# Altium integrated library con-leotronics.IntLib: 93 symbols (part 2 of 4)

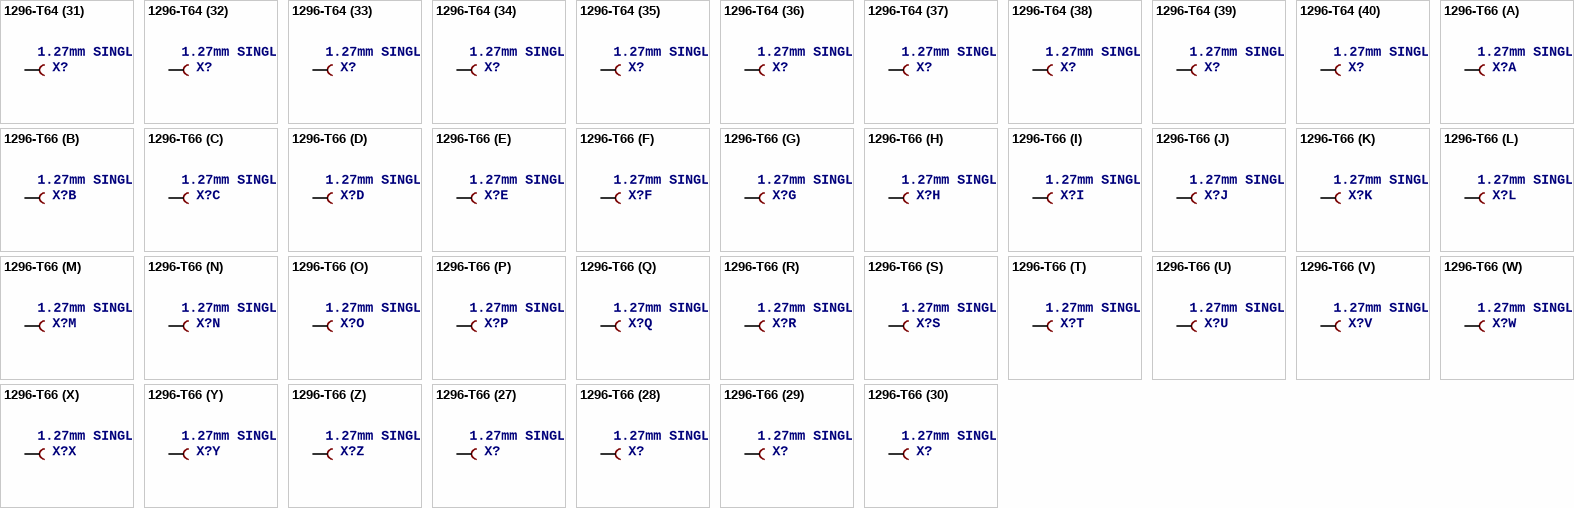
[diagram p23: symbols 1296-T64 to 1296-T66]

## 1296-T64
designator X?, comment 1.27mm SINGLE ROW FEMALE SOCKET   Source: http://www.leotronics.co.uk/Conexcon/Data%20Sheets/sec.%20A/1296ing.pdf
OC_FARNELL: unknown; OC_NEWARK: unknown
footprint 1296-64
part A pins: 1 B
part B pins: 2 B
part C pins: 3 B
part D pins: 4 B
part E pins: 5 B
part F pins: 6 B
part G pins: 7 B
part H pins: 8 B
part I pins: 9 B
part J pins: 10 B
part K pins: 11 B
part L pins: 12 B
part M pins: 13 B
part N pins: 14 B
part O pins: 15 B
part P pins: 16 B
part Q pins: 17 B
part R pins: 18 B
part S pins: 19 B
part T pins: 20 B
part U pins: 21 B
part V pins: 22 B
part W pins: 23 B
part X pins: 24 B
part Y pins: 25 B
part Z pins: 26 B
part 27 pins: 27 B
part 28 pins: 28 B
part 29 pins: 29 B
part 30 pins: 30 B
part 31 pins: 31 B
part 32 pins: 32 B
part 33 pins: 33 B
part 34 pins: 34 B
part 35 pins: 35 B
part 36 pins: 36 B
part 37 pins: 37 B
part 38 pins: 38 B
part 39 pins: 39 B
part 40 pins: 40 B
part 41 pins: 41 B
part 42 pins: 42 B
part 43 pins: 43 B
part 44 pins: 44 B
part 45 pins: 45 B
part 46 pins: 46 B
part 47 pins: 47 B
part 48 pins: 48 B
part 49 pins: 49 B
part 50 pins: 50 B
part 51 pins: 51 B
part 52 pins: 52 B
part 53 pins: 53 B
part 54 pins: 54 B
part 55 pins: 55 B
part 56 pins: 56 B
part 57 pins: 57 B
part 58 pins: 58 B
part 59 pins: 59 B
part 60 pins: 60 B
part 61 pins: 61 B
part 62 pins: 62 B
part 63 pins: 63 B
part 64 pins: 64 B

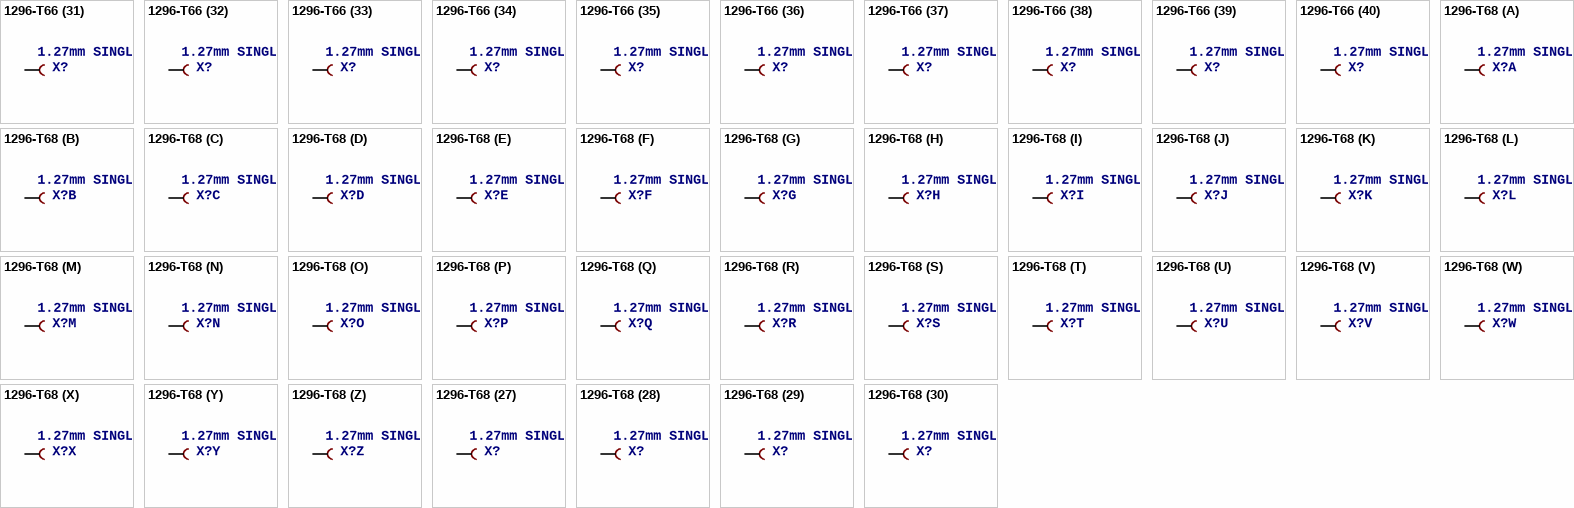
[diagram p24: symbols 1296-T66 to 1296-T68]

## 1296-T66
designator X?, comment 1.27mm SINGLE ROW FEMALE SOCKET   Source: http://www.leotronics.co.uk/Conexcon/Data%20Sheets/sec.%20A/1296ing.pdf
OC_FARNELL: unknown; OC_NEWARK: unknown
footprint 1296-66
part A pins: 1 B
part B pins: 2 B
part C pins: 3 B
part D pins: 4 B
part E pins: 5 B
part F pins: 6 B
part G pins: 7 B
part H pins: 8 B
part I pins: 9 B
part J pins: 10 B
part K pins: 11 B
part L pins: 12 B
part M pins: 13 B
part N pins: 14 B
part O pins: 15 B
part P pins: 16 B
part Q pins: 17 B
part R pins: 18 B
part S pins: 19 B
part T pins: 20 B
part U pins: 21 B
part V pins: 22 B
part W pins: 23 B
part X pins: 24 B
part Y pins: 25 B
part Z pins: 26 B
part 27 pins: 27 B
part 28 pins: 28 B
part 29 pins: 29 B
part 30 pins: 30 B
part 31 pins: 31 B
part 32 pins: 32 B
part 33 pins: 33 B
part 34 pins: 34 B
part 35 pins: 35 B
part 36 pins: 36 B
part 37 pins: 37 B
part 38 pins: 38 B
part 39 pins: 39 B
part 40 pins: 40 B
part 41 pins: 41 B
part 42 pins: 42 B
part 43 pins: 43 B
part 44 pins: 44 B
part 45 pins: 45 B
part 46 pins: 46 B
part 47 pins: 47 B
part 48 pins: 48 B
part 49 pins: 49 B
part 50 pins: 50 B
part 51 pins: 51 B
part 52 pins: 52 B
part 53 pins: 53 B
part 54 pins: 54 B
part 55 pins: 55 B
part 56 pins: 56 B
part 57 pins: 57 B
part 58 pins: 58 B
part 59 pins: 59 B
part 60 pins: 60 B
part 61 pins: 61 B
part 62 pins: 62 B
part 63 pins: 63 B
part 64 pins: 64 B
part 65 pins: 65 B
part 66 pins: 66 B

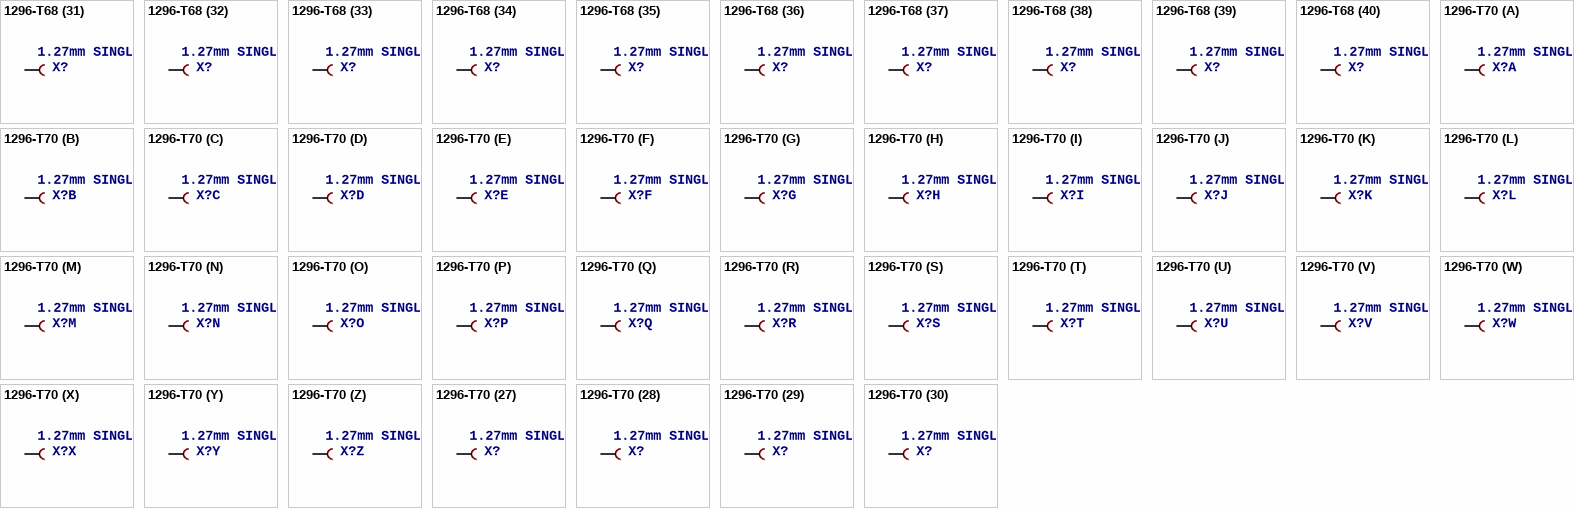
[diagram p25: symbols 1296-T68 to 1296-T70]

## 1296-T68
designator X?, comment 1.27mm SINGLE ROW FEMALE SOCKET   Source: http://www.leotronics.co.uk/Conexcon/Data%20Sheets/sec.%20A/1296ing.pdf
OC_FARNELL: unknown; OC_NEWARK: unknown
footprint 1296-68
part A pins: 1 B
part B pins: 2 B
part C pins: 3 B
part D pins: 4 B
part E pins: 5 B
part F pins: 6 B
part G pins: 7 B
part H pins: 8 B
part I pins: 9 B
part J pins: 10 B
part K pins: 11 B
part L pins: 12 B
part M pins: 13 B
part N pins: 14 B
part O pins: 15 B
part P pins: 16 B
part Q pins: 17 B
part R pins: 18 B
part S pins: 19 B
part T pins: 20 B
part U pins: 21 B
part V pins: 22 B
part W pins: 23 B
part X pins: 24 B
part Y pins: 25 B
part Z pins: 26 B
part 27 pins: 27 B
part 28 pins: 28 B
part 29 pins: 29 B
part 30 pins: 30 B
part 31 pins: 31 B
part 32 pins: 32 B
part 33 pins: 33 B
part 34 pins: 34 B
part 35 pins: 35 B
part 36 pins: 36 B
part 37 pins: 37 B
part 38 pins: 38 B
part 39 pins: 39 B
part 40 pins: 40 B
part 41 pins: 41 B
part 42 pins: 42 B
part 43 pins: 43 B
part 44 pins: 44 B
part 45 pins: 45 B
part 46 pins: 46 B
part 47 pins: 47 B
part 48 pins: 48 B
part 49 pins: 49 B
part 50 pins: 50 B
part 51 pins: 51 B
part 52 pins: 52 B
part 53 pins: 53 B
part 54 pins: 54 B
part 55 pins: 55 B
part 56 pins: 56 B
part 57 pins: 57 B
part 58 pins: 58 B
part 59 pins: 59 B
part 60 pins: 60 B
part 61 pins: 61 B
part 62 pins: 62 B
part 63 pins: 63 B
part 64 pins: 64 B
part 65 pins: 65 B
part 66 pins: 66 B
part 67 pins: 67 B
part 68 pins: 68 B

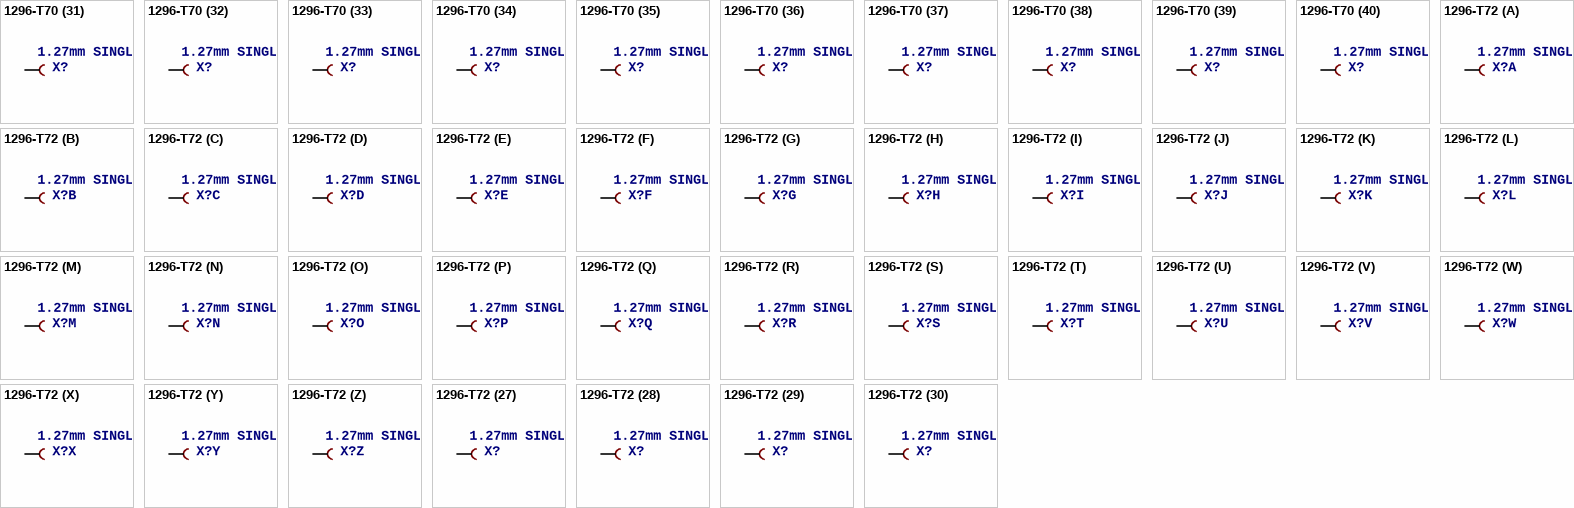
[diagram p26: symbols 1296-T70 to 1296-T72]

## 1296-T70
designator X?, comment 1.27mm SINGLE ROW FEMALE SOCKET   Source: http://www.leotronics.co.uk/Conexcon/Data%20Sheets/sec.%20A/1296ing.pdf
OC_FARNELL: unknown; OC_NEWARK: unknown
footprint 1296-70
part A pins: 1 B
part B pins: 2 B
part C pins: 3 B
part D pins: 4 B
part E pins: 5 B
part F pins: 6 B
part G pins: 7 B
part H pins: 8 B
part I pins: 9 B
part J pins: 10 B
part K pins: 11 B
part L pins: 12 B
part M pins: 13 B
part N pins: 14 B
part O pins: 15 B
part P pins: 16 B
part Q pins: 17 B
part R pins: 18 B
part S pins: 19 B
part T pins: 20 B
part U pins: 21 B
part V pins: 22 B
part W pins: 23 B
part X pins: 24 B
part Y pins: 25 B
part Z pins: 26 B
part 27 pins: 27 B
part 28 pins: 28 B
part 29 pins: 29 B
part 30 pins: 30 B
part 31 pins: 31 B
part 32 pins: 32 B
part 33 pins: 33 B
part 34 pins: 34 B
part 35 pins: 35 B
part 36 pins: 36 B
part 37 pins: 37 B
part 38 pins: 38 B
part 39 pins: 39 B
part 40 pins: 40 B
part 41 pins: 41 B
part 42 pins: 42 B
part 43 pins: 43 B
part 44 pins: 44 B
part 45 pins: 45 B
part 46 pins: 46 B
part 47 pins: 47 B
part 48 pins: 48 B
part 49 pins: 49 B
part 50 pins: 50 B
part 51 pins: 51 B
part 52 pins: 52 B
part 53 pins: 53 B
part 54 pins: 54 B
part 55 pins: 55 B
part 56 pins: 56 B
part 57 pins: 57 B
part 58 pins: 58 B
part 59 pins: 59 B
part 60 pins: 60 B
part 61 pins: 61 B
part 62 pins: 62 B
part 63 pins: 63 B
part 64 pins: 64 B
part 65 pins: 65 B
part 66 pins: 66 B
part 67 pins: 67 B
part 68 pins: 68 B
part 69 pins: 69 B
part 70 pins: 70 B

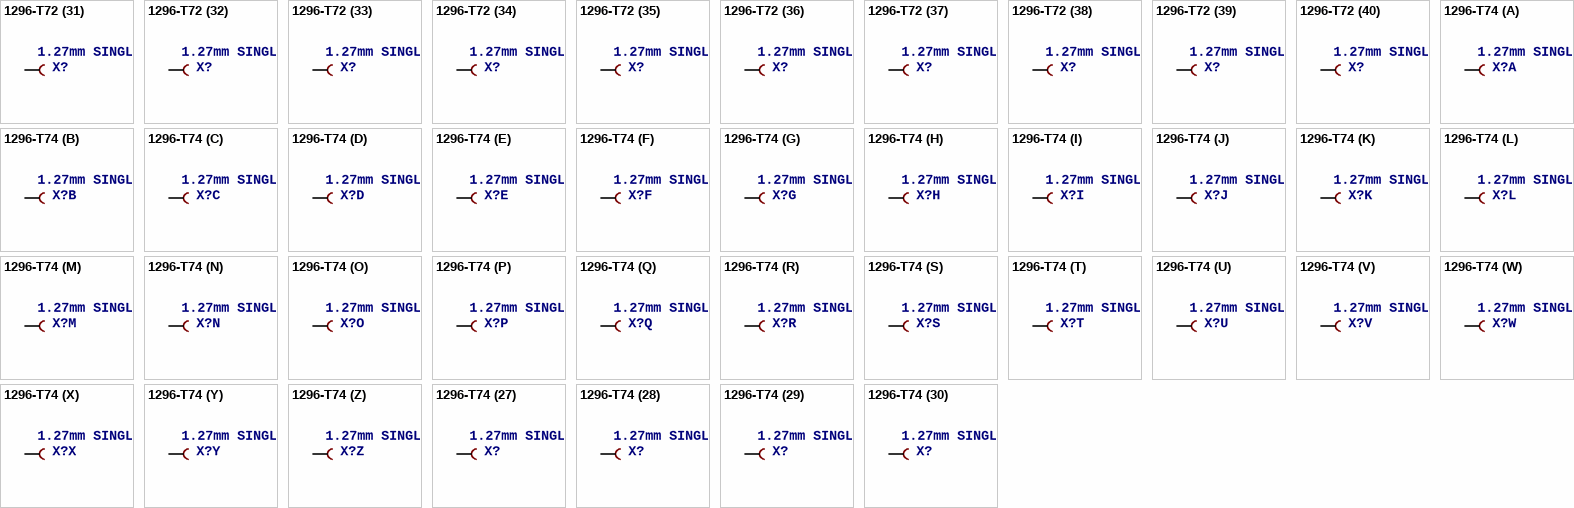
[diagram p27: symbols 1296-T72 to 1296-T74]

## 1296-T72
designator X?, comment 1.27mm SINGLE ROW FEMALE SOCKET   Source: http://www.leotronics.co.uk/Conexcon/Data%20Sheets/sec.%20A/1296ing.pdf
OC_FARNELL: unknown; OC_NEWARK: unknown
footprint 1296-72
part A pins: 1 B
part B pins: 2 B
part C pins: 3 B
part D pins: 4 B
part E pins: 5 B
part F pins: 6 B
part G pins: 7 B
part H pins: 8 B
part I pins: 9 B
part J pins: 10 B
part K pins: 11 B
part L pins: 12 B
part M pins: 13 B
part N pins: 14 B
part O pins: 15 B
part P pins: 16 B
part Q pins: 17 B
part R pins: 18 B
part S pins: 19 B
part T pins: 20 B
part U pins: 21 B
part V pins: 22 B
part W pins: 23 B
part X pins: 24 B
part Y pins: 25 B
part Z pins: 26 B
part 27 pins: 27 B
part 28 pins: 28 B
part 29 pins: 29 B
part 30 pins: 30 B
part 31 pins: 31 B
part 32 pins: 32 B
part 33 pins: 33 B
part 34 pins: 34 B
part 35 pins: 35 B
part 36 pins: 36 B
part 37 pins: 37 B
part 38 pins: 38 B
part 39 pins: 39 B
part 40 pins: 40 B
part 41 pins: 41 B
part 42 pins: 42 B
part 43 pins: 43 B
part 44 pins: 44 B
part 45 pins: 45 B
part 46 pins: 46 B
part 47 pins: 47 B
part 48 pins: 48 B
part 49 pins: 49 B
part 50 pins: 50 B
part 51 pins: 51 B
part 52 pins: 52 B
part 53 pins: 53 B
part 54 pins: 54 B
part 55 pins: 55 B
part 56 pins: 56 B
part 57 pins: 57 B
part 58 pins: 58 B
part 59 pins: 59 B
part 60 pins: 60 B
part 61 pins: 61 B
part 62 pins: 62 B
part 63 pins: 63 B
part 64 pins: 64 B
part 65 pins: 65 B
part 66 pins: 66 B
part 67 pins: 67 B
part 68 pins: 68 B
part 69 pins: 69 B
part 70 pins: 70 B
part 71 pins: 71 B
part 72 pins: 72 B

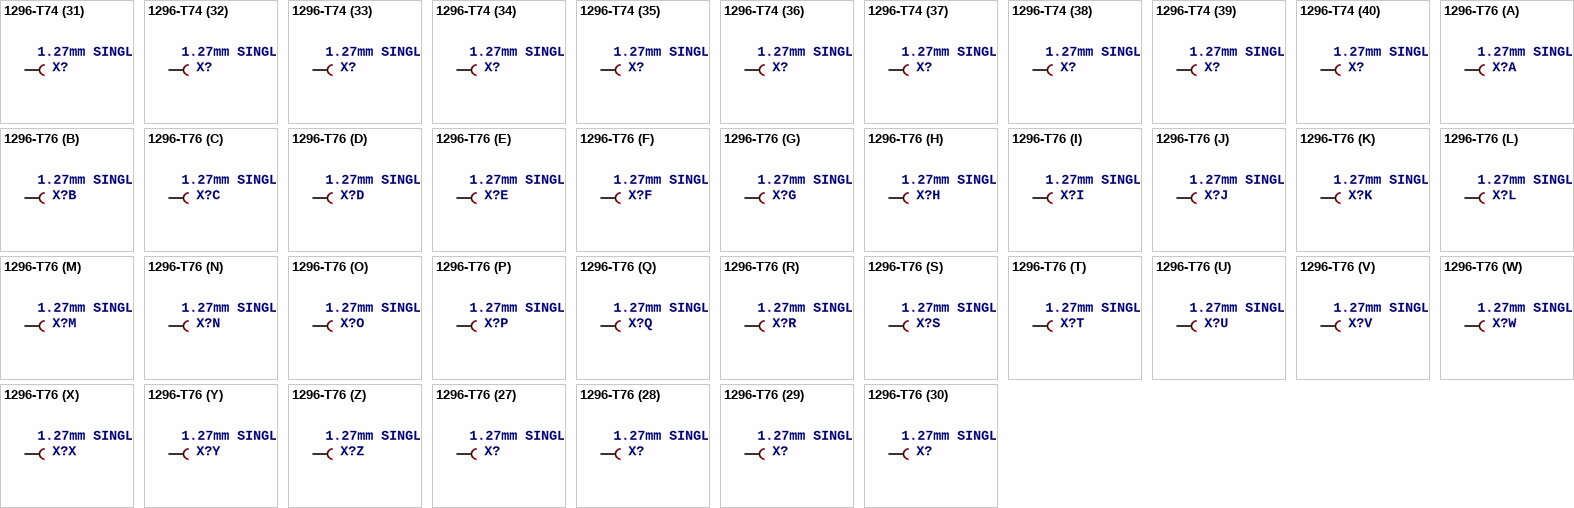
[diagram p28: symbols 1296-T74 to 1296-T76]

## 1296-T74
designator X?, comment 1.27mm SINGLE ROW FEMALE SOCKET   Source: http://www.leotronics.co.uk/Conexcon/Data%20Sheets/sec.%20A/1296ing.pdf
OC_FARNELL: unknown; OC_NEWARK: unknown
footprint 1296-74
part A pins: 1 B
part B pins: 2 B
part C pins: 3 B
part D pins: 4 B
part E pins: 5 B
part F pins: 6 B
part G pins: 7 B
part H pins: 8 B
part I pins: 9 B
part J pins: 10 B
part K pins: 11 B
part L pins: 12 B
part M pins: 13 B
part N pins: 14 B
part O pins: 15 B
part P pins: 16 B
part Q pins: 17 B
part R pins: 18 B
part S pins: 19 B
part T pins: 20 B
part U pins: 21 B
part V pins: 22 B
part W pins: 23 B
part X pins: 24 B
part Y pins: 25 B
part Z pins: 26 B
part 27 pins: 27 B
part 28 pins: 28 B
part 29 pins: 29 B
part 30 pins: 30 B
part 31 pins: 31 B
part 32 pins: 32 B
part 33 pins: 33 B
part 34 pins: 34 B
part 35 pins: 35 B
part 36 pins: 36 B
part 37 pins: 37 B
part 38 pins: 38 B
part 39 pins: 39 B
part 40 pins: 40 B
part 41 pins: 41 B
part 42 pins: 42 B
part 43 pins: 43 B
part 44 pins: 44 B
part 45 pins: 45 B
part 46 pins: 46 B
part 47 pins: 47 B
part 48 pins: 48 B
part 49 pins: 49 B
part 50 pins: 50 B
part 51 pins: 51 B
part 52 pins: 52 B
part 53 pins: 53 B
part 54 pins: 54 B
part 55 pins: 55 B
part 56 pins: 56 B
part 57 pins: 57 B
part 58 pins: 58 B
part 59 pins: 59 B
part 60 pins: 60 B
part 61 pins: 61 B
part 62 pins: 62 B
part 63 pins: 63 B
part 64 pins: 64 B
part 65 pins: 65 B
part 66 pins: 66 B
part 67 pins: 67 B
part 68 pins: 68 B
part 69 pins: 69 B
part 70 pins: 70 B
part 71 pins: 71 B
part 72 pins: 72 B
part 73 pins: 73 B
part 74 pins: 74 B

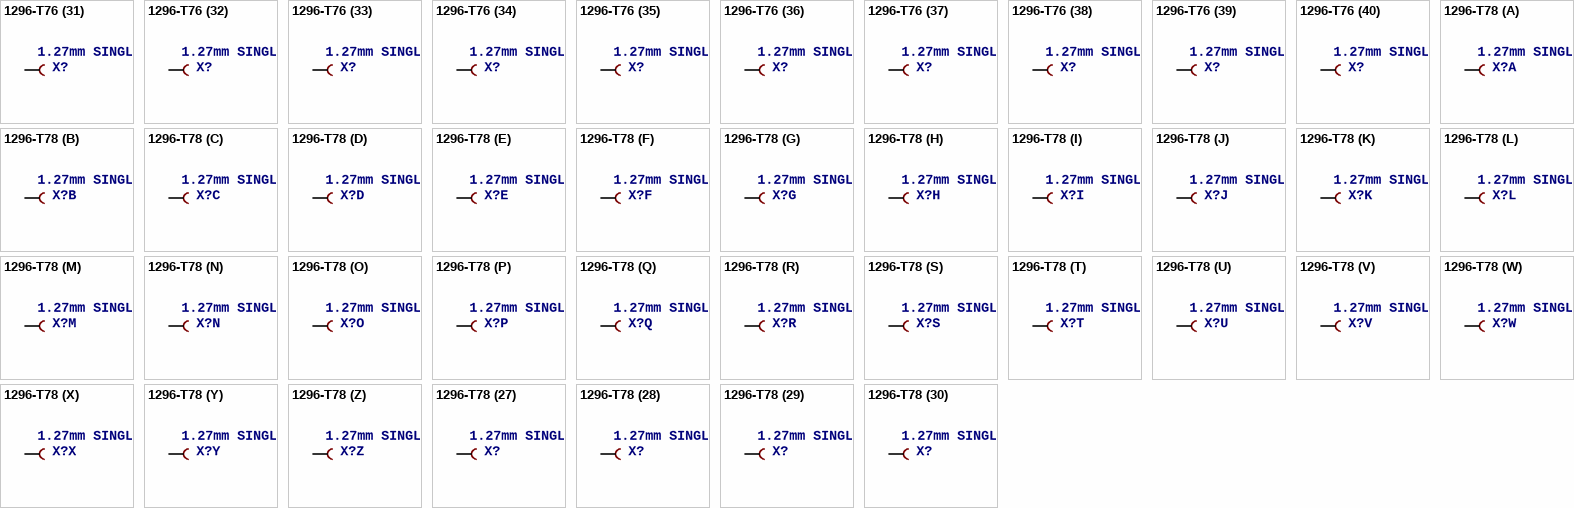
[diagram p29: symbols 1296-T76 to 1296-T78]

## 1296-T76
designator X?, comment 1.27mm SINGLE ROW FEMALE SOCKET   Source: http://www.leotronics.co.uk/Conexcon/Data%20Sheets/sec.%20A/1296ing.pdf
OC_FARNELL: unknown; OC_NEWARK: unknown
footprint 1296-76
part A pins: 1 B
part B pins: 2 B
part C pins: 3 B
part D pins: 4 B
part E pins: 5 B
part F pins: 6 B
part G pins: 7 B
part H pins: 8 B
part I pins: 9 B
part J pins: 10 B
part K pins: 11 B
part L pins: 12 B
part M pins: 13 B
part N pins: 14 B
part O pins: 15 B
part P pins: 16 B
part Q pins: 17 B
part R pins: 18 B
part S pins: 19 B
part T pins: 20 B
part U pins: 21 B
part V pins: 22 B
part W pins: 23 B
part X pins: 24 B
part Y pins: 25 B
part Z pins: 26 B
part 27 pins: 27 B
part 28 pins: 28 B
part 29 pins: 29 B
part 30 pins: 30 B
part 31 pins: 31 B
part 32 pins: 32 B
part 33 pins: 33 B
part 34 pins: 34 B
part 35 pins: 35 B
part 36 pins: 36 B
part 37 pins: 37 B
part 38 pins: 38 B
part 39 pins: 39 B
part 40 pins: 40 B
part 41 pins: 41 B
part 42 pins: 42 B
part 43 pins: 43 B
part 44 pins: 44 B
part 45 pins: 45 B
part 46 pins: 46 B
part 47 pins: 47 B
part 48 pins: 48 B
part 49 pins: 49 B
part 50 pins: 50 B
part 51 pins: 51 B
part 52 pins: 52 B
part 53 pins: 53 B
part 54 pins: 54 B
part 55 pins: 55 B
part 56 pins: 56 B
part 57 pins: 57 B
part 58 pins: 58 B
part 59 pins: 59 B
part 60 pins: 60 B
part 61 pins: 61 B
part 62 pins: 62 B
part 63 pins: 63 B
part 64 pins: 64 B
part 65 pins: 65 B
part 66 pins: 66 B
part 67 pins: 67 B
part 68 pins: 68 B
part 69 pins: 69 B
part 70 pins: 70 B
part 71 pins: 71 B
part 72 pins: 72 B
part 73 pins: 73 B
part 74 pins: 74 B
part 75 pins: 75 B
part 76 pins: 76 B

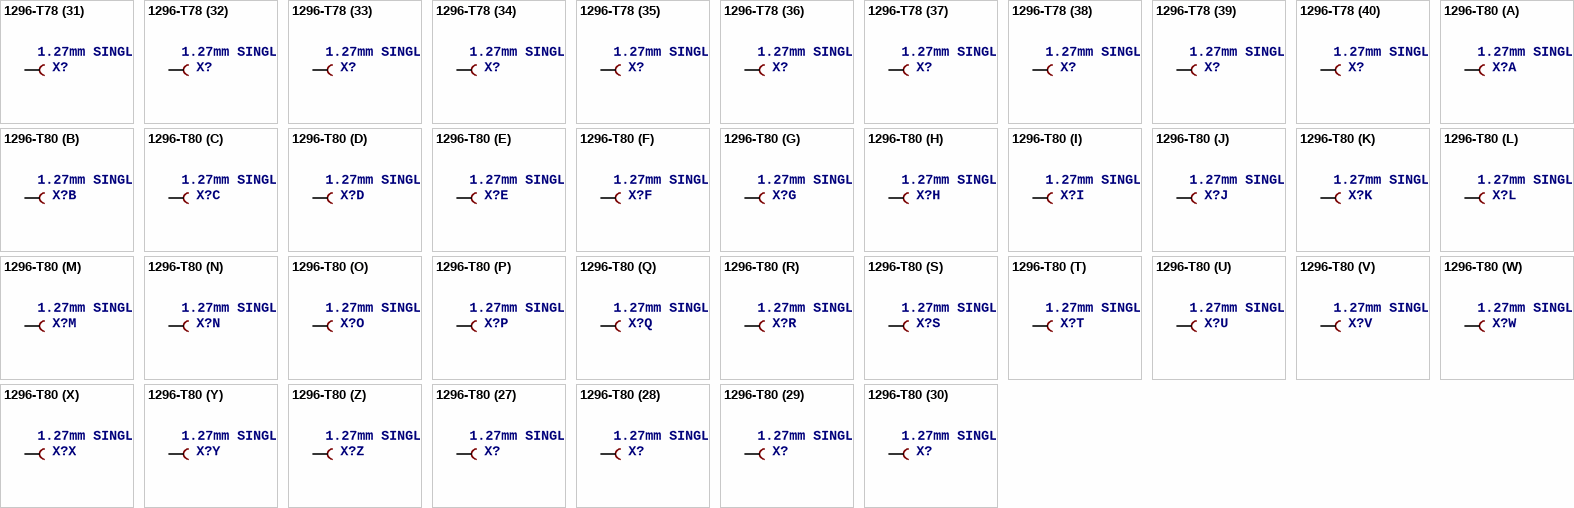
[diagram p30: symbols 1296-T78 to 1296-T80]

## 1296-T78
designator X?, comment 1.27mm SINGLE ROW FEMALE SOCKET   Source: http://www.leotronics.co.uk/Conexcon/Data%20Sheets/sec.%20A/1296ing.pdf
OC_FARNELL: unknown; OC_NEWARK: unknown
footprint 1296-78
part A pins: 1 B
part B pins: 2 B
part C pins: 3 B
part D pins: 4 B
part E pins: 5 B
part F pins: 6 B
part G pins: 7 B
part H pins: 8 B
part I pins: 9 B
part J pins: 10 B
part K pins: 11 B
part L pins: 12 B
part M pins: 13 B
part N pins: 14 B
part O pins: 15 B
part P pins: 16 B
part Q pins: 17 B
part R pins: 18 B
part S pins: 19 B
part T pins: 20 B
part U pins: 21 B
part V pins: 22 B
part W pins: 23 B
part X pins: 24 B
part Y pins: 25 B
part Z pins: 26 B
part 27 pins: 27 B
part 28 pins: 28 B
part 29 pins: 29 B
part 30 pins: 30 B
part 31 pins: 31 B
part 32 pins: 32 B
part 33 pins: 33 B
part 34 pins: 34 B
part 35 pins: 35 B
part 36 pins: 36 B
part 37 pins: 37 B
part 38 pins: 38 B
part 39 pins: 39 B
part 40 pins: 40 B
part 41 pins: 41 B
part 42 pins: 42 B
part 43 pins: 43 B
part 44 pins: 44 B
part 45 pins: 45 B
part 46 pins: 46 B
part 47 pins: 47 B
part 48 pins: 48 B
part 49 pins: 49 B
part 50 pins: 50 B
part 51 pins: 51 B
part 52 pins: 52 B
part 53 pins: 53 B
part 54 pins: 54 B
part 55 pins: 55 B
part 56 pins: 56 B
part 57 pins: 57 B
part 58 pins: 58 B
part 59 pins: 59 B
part 60 pins: 60 B
part 61 pins: 61 B
part 62 pins: 62 B
part 63 pins: 63 B
part 64 pins: 64 B
part 65 pins: 65 B
part 66 pins: 66 B
part 67 pins: 67 B
part 68 pins: 68 B
part 69 pins: 69 B
part 70 pins: 70 B
part 71 pins: 71 B
part 72 pins: 72 B
part 73 pins: 73 B
part 74 pins: 74 B
part 75 pins: 75 B
part 76 pins: 76 B
part 77 pins: 77 B
part 78 pins: 78 B

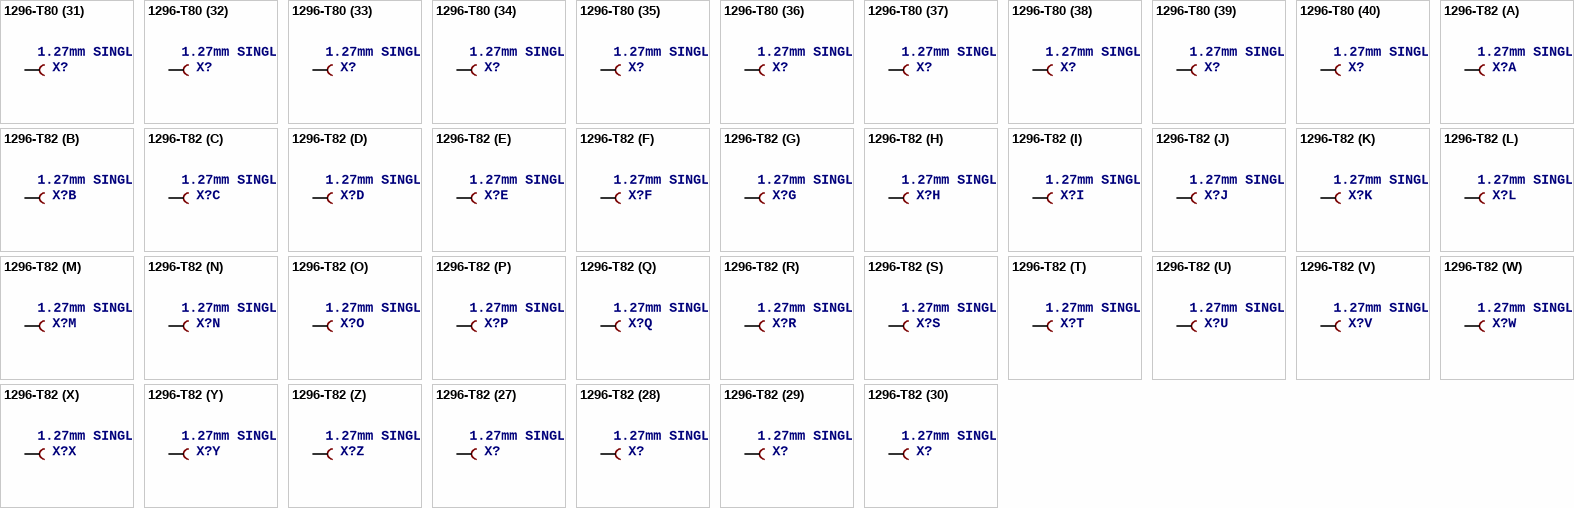
[diagram p31: symbols 1296-T80 to 1296-T82]

## 1296-T80
designator X?, comment 1.27mm SINGLE ROW FEMALE SOCKET   Source: http://www.leotronics.co.uk/Conexcon/Data%20Sheets/sec.%20A/1296ing.pdf
OC_FARNELL: unknown; OC_NEWARK: unknown
footprint 1296-80
part A pins: 1 B
part B pins: 2 B
part C pins: 3 B
part D pins: 4 B
part E pins: 5 B
part F pins: 6 B
part G pins: 7 B
part H pins: 8 B
part I pins: 9 B
part J pins: 10 B
part K pins: 11 B
part L pins: 12 B
part M pins: 13 B
part N pins: 14 B
part O pins: 15 B
part P pins: 16 B
part Q pins: 17 B
part R pins: 18 B
part S pins: 19 B
part T pins: 20 B
part U pins: 21 B
part V pins: 22 B
part W pins: 23 B
part X pins: 24 B
part Y pins: 25 B
part Z pins: 26 B
part 27 pins: 27 B
part 28 pins: 28 B
part 29 pins: 29 B
part 30 pins: 30 B
part 31 pins: 31 B
part 32 pins: 32 B
part 33 pins: 33 B
part 34 pins: 34 B
part 35 pins: 35 B
part 36 pins: 36 B
part 37 pins: 37 B
part 38 pins: 38 B
part 39 pins: 39 B
part 40 pins: 40 B
part 41 pins: 41 B
part 42 pins: 42 B
part 43 pins: 43 B
part 44 pins: 44 B
part 45 pins: 45 B
part 46 pins: 46 B
part 47 pins: 47 B
part 48 pins: 48 B
part 49 pins: 49 B
part 50 pins: 50 B
part 51 pins: 51 B
part 52 pins: 52 B
part 53 pins: 53 B
part 54 pins: 54 B
part 55 pins: 55 B
part 56 pins: 56 B
part 57 pins: 57 B
part 58 pins: 58 B
part 59 pins: 59 B
part 60 pins: 60 B
part 61 pins: 61 B
part 62 pins: 62 B
part 63 pins: 63 B
part 64 pins: 64 B
part 65 pins: 65 B
part 66 pins: 66 B
part 67 pins: 67 B
part 68 pins: 68 B
part 69 pins: 69 B
part 70 pins: 70 B
part 71 pins: 71 B
part 72 pins: 72 B
part 73 pins: 73 B
part 74 pins: 74 B
part 75 pins: 75 B
part 76 pins: 76 B
part 77 pins: 77 B
part 78 pins: 78 B
part 79 pins: 79 B
part 80 pins: 80 B

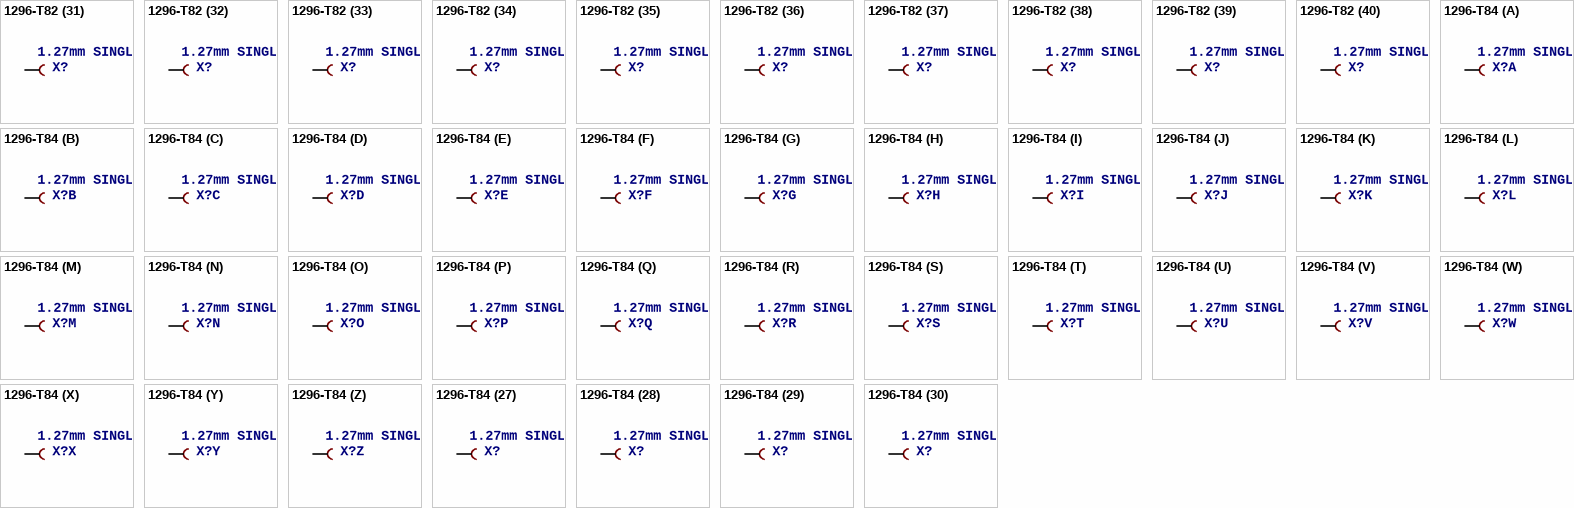
[diagram p32: symbols 1296-T82 to 1296-T84]

## 1296-T82
designator X?, comment 1.27mm SINGLE ROW FEMALE SOCKET   Source: http://www.leotronics.co.uk/Conexcon/Data%20Sheets/sec.%20A/1296ing.pdf
OC_FARNELL: unknown; OC_NEWARK: unknown
footprint 1296-82
part A pins: 1 B
part B pins: 2 B
part C pins: 3 B
part D pins: 4 B
part E pins: 5 B
part F pins: 6 B
part G pins: 7 B
part H pins: 8 B
part I pins: 9 B
part J pins: 10 B
part K pins: 11 B
part L pins: 12 B
part M pins: 13 B
part N pins: 14 B
part O pins: 15 B
part P pins: 16 B
part Q pins: 17 B
part R pins: 18 B
part S pins: 19 B
part T pins: 20 B
part U pins: 21 B
part V pins: 22 B
part W pins: 23 B
part X pins: 24 B
part Y pins: 25 B
part Z pins: 26 B
part 27 pins: 27 B
part 28 pins: 28 B
part 29 pins: 29 B
part 30 pins: 30 B
part 31 pins: 31 B
part 32 pins: 32 B
part 33 pins: 33 B
part 34 pins: 34 B
part 35 pins: 35 B
part 36 pins: 36 B
part 37 pins: 37 B
part 38 pins: 38 B
part 39 pins: 39 B
part 40 pins: 40 B
part 41 pins: 41 B
part 42 pins: 42 B
part 43 pins: 43 B
part 44 pins: 44 B
part 45 pins: 45 B
part 46 pins: 46 B
part 47 pins: 47 B
part 48 pins: 48 B
part 49 pins: 49 B
part 50 pins: 50 B
part 51 pins: 51 B
part 52 pins: 52 B
part 53 pins: 53 B
part 54 pins: 54 B
part 55 pins: 55 B
part 56 pins: 56 B
part 57 pins: 57 B
part 58 pins: 58 B
part 59 pins: 59 B
part 60 pins: 60 B
part 61 pins: 61 B
part 62 pins: 62 B
part 63 pins: 63 B
part 64 pins: 64 B
part 65 pins: 65 B
part 66 pins: 66 B
part 67 pins: 67 B
part 68 pins: 68 B
part 69 pins: 69 B
part 70 pins: 70 B
part 71 pins: 71 B
part 72 pins: 72 B
part 73 pins: 73 B
part 74 pins: 74 B
part 75 pins: 75 B
part 76 pins: 76 B
part 77 pins: 77 B
part 78 pins: 78 B
part 79 pins: 79 B
part 80 pins: 80 B
part 81 pins: 81 B
part 82 pins: 82 B

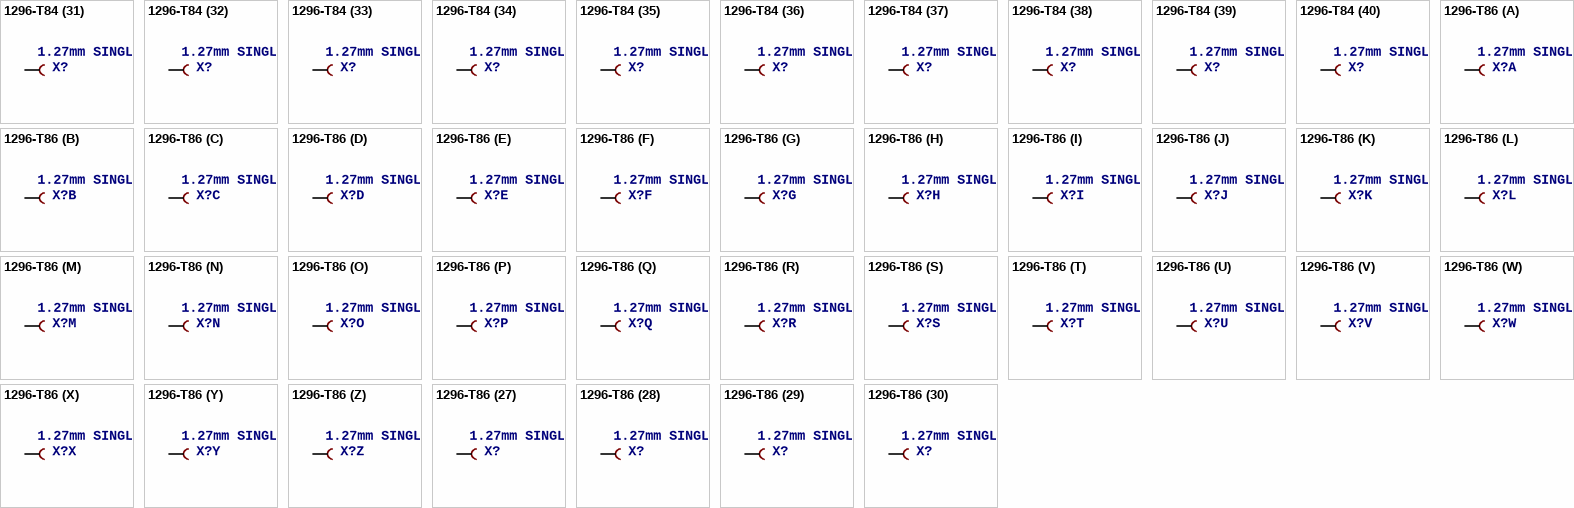
[diagram p33: symbols 1296-T84 to 1296-T86]

## 1296-T84
designator X?, comment 1.27mm SINGLE ROW FEMALE SOCKET   Source: http://www.leotronics.co.uk/Conexcon/Data%20Sheets/sec.%20A/1296ing.pdf
OC_FARNELL: unknown; OC_NEWARK: unknown
footprint 1296-84
part A pins: 1 B
part B pins: 2 B
part C pins: 3 B
part D pins: 4 B
part E pins: 5 B
part F pins: 6 B
part G pins: 7 B
part H pins: 8 B
part I pins: 9 B
part J pins: 10 B
part K pins: 11 B
part L pins: 12 B
part M pins: 13 B
part N pins: 14 B
part O pins: 15 B
part P pins: 16 B
part Q pins: 17 B
part R pins: 18 B
part S pins: 19 B
part T pins: 20 B
part U pins: 21 B
part V pins: 22 B
part W pins: 23 B
part X pins: 24 B
part Y pins: 25 B
part Z pins: 26 B
part 27 pins: 27 B
part 28 pins: 28 B
part 29 pins: 29 B
part 30 pins: 30 B
part 31 pins: 31 B
part 32 pins: 32 B
part 33 pins: 33 B
part 34 pins: 34 B
part 35 pins: 35 B
part 36 pins: 36 B
part 37 pins: 37 B
part 38 pins: 38 B
part 39 pins: 39 B
part 40 pins: 40 B
part 41 pins: 41 B
part 42 pins: 42 B
part 43 pins: 43 B
part 44 pins: 44 B
part 45 pins: 45 B
part 46 pins: 46 B
part 47 pins: 47 B
part 48 pins: 48 B
part 49 pins: 49 B
part 50 pins: 50 B
part 51 pins: 51 B
part 52 pins: 52 B
part 53 pins: 53 B
part 54 pins: 54 B
part 55 pins: 55 B
part 56 pins: 56 B
part 57 pins: 57 B
part 58 pins: 58 B
part 59 pins: 59 B
part 60 pins: 60 B
part 61 pins: 61 B
part 62 pins: 62 B
part 63 pins: 63 B
part 64 pins: 64 B
part 65 pins: 65 B
part 66 pins: 66 B
part 67 pins: 67 B
part 68 pins: 68 B
part 69 pins: 69 B
part 70 pins: 70 B
part 71 pins: 71 B
part 72 pins: 72 B
part 73 pins: 73 B
part 74 pins: 74 B
part 75 pins: 75 B
part 76 pins: 76 B
part 77 pins: 77 B
part 78 pins: 78 B
part 79 pins: 79 B
part 80 pins: 80 B
part 81 pins: 81 B
part 82 pins: 82 B
part 83 pins: 83 B
part 84 pins: 84 B

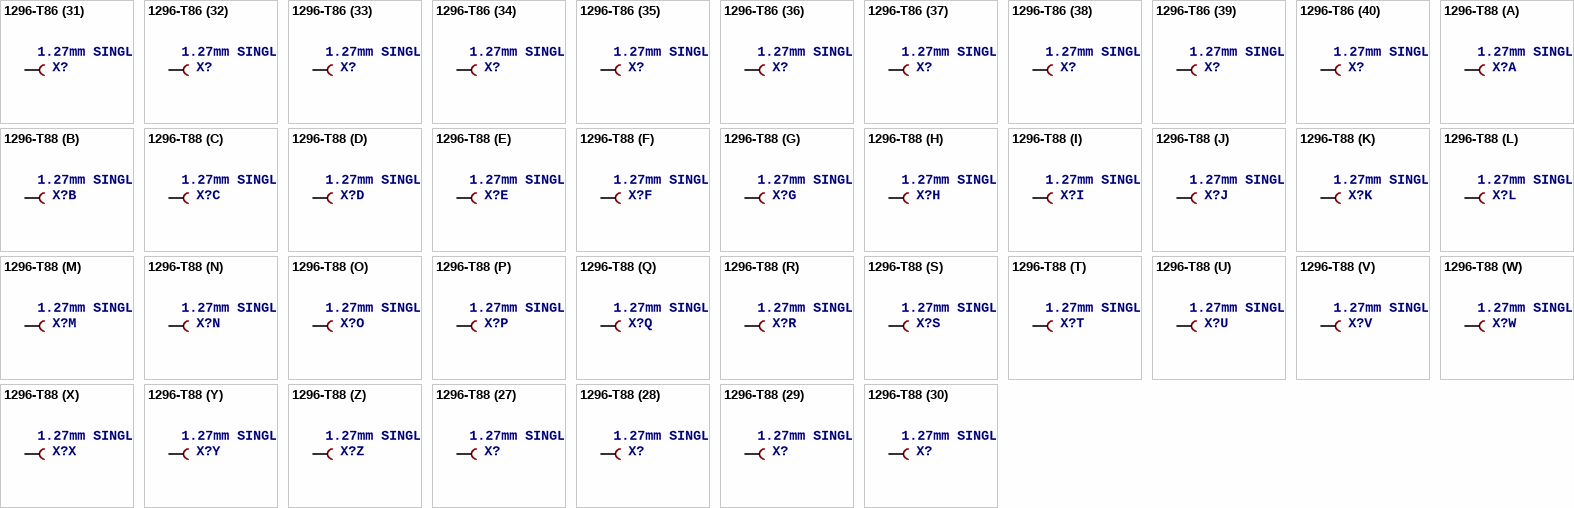
[diagram p34: symbols 1296-T86 to 1296-T88]

## 1296-T86
designator X?, comment 1.27mm SINGLE ROW FEMALE SOCKET   Source: http://www.leotronics.co.uk/Conexcon/Data%20Sheets/sec.%20A/1296ing.pdf
OC_FARNELL: unknown; OC_NEWARK: unknown
footprint 1296-86
part A pins: 1 B
part B pins: 2 B
part C pins: 3 B
part D pins: 4 B
part E pins: 5 B
part F pins: 6 B
part G pins: 7 B
part H pins: 8 B
part I pins: 9 B
part J pins: 10 B
part K pins: 11 B
part L pins: 12 B
part M pins: 13 B
part N pins: 14 B
part O pins: 15 B
part P pins: 16 B
part Q pins: 17 B
part R pins: 18 B
part S pins: 19 B
part T pins: 20 B
part U pins: 21 B
part V pins: 22 B
part W pins: 23 B
part X pins: 24 B
part Y pins: 25 B
part Z pins: 26 B
part 27 pins: 27 B
part 28 pins: 28 B
part 29 pins: 29 B
part 30 pins: 30 B
part 31 pins: 31 B
part 32 pins: 32 B
part 33 pins: 33 B
part 34 pins: 34 B
part 35 pins: 35 B
part 36 pins: 36 B
part 37 pins: 37 B
part 38 pins: 38 B
part 39 pins: 39 B
part 40 pins: 40 B
part 41 pins: 41 B
part 42 pins: 42 B
part 43 pins: 43 B
part 44 pins: 44 B
part 45 pins: 45 B
part 46 pins: 46 B
part 47 pins: 47 B
part 48 pins: 48 B
part 49 pins: 49 B
part 50 pins: 50 B
part 51 pins: 51 B
part 52 pins: 52 B
part 53 pins: 53 B
part 54 pins: 54 B
part 55 pins: 55 B
part 56 pins: 56 B
part 57 pins: 57 B
part 58 pins: 58 B
part 59 pins: 59 B
part 60 pins: 60 B
part 61 pins: 61 B
part 62 pins: 62 B
part 63 pins: 63 B
part 64 pins: 64 B
part 65 pins: 65 B
part 66 pins: 66 B
part 67 pins: 67 B
part 68 pins: 68 B
part 69 pins: 69 B
part 70 pins: 70 B
part 71 pins: 71 B
part 72 pins: 72 B
part 73 pins: 73 B
part 74 pins: 74 B
part 75 pins: 75 B
part 76 pins: 76 B
part 77 pins: 77 B
part 78 pins: 78 B
part 79 pins: 79 B
part 80 pins: 80 B
part 81 pins: 81 B
part 82 pins: 82 B
part 83 pins: 83 B
part 84 pins: 84 B
part 85 pins: 85 B
part 86 pins: 86 B

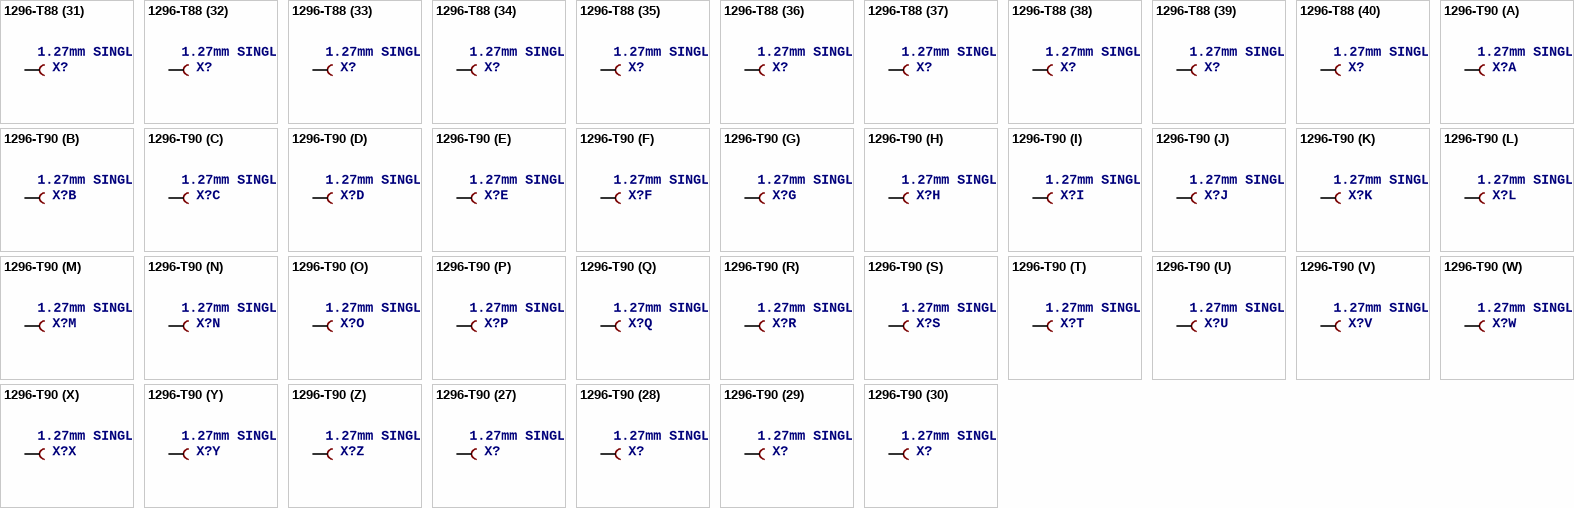
[diagram p35: symbols 1296-T88 to 1296-T90]

## 1296-T88
designator X?, comment 1.27mm SINGLE ROW FEMALE SOCKET   Source: http://www.leotronics.co.uk/Conexcon/Data%20Sheets/sec.%20A/1296ing.pdf
OC_FARNELL: unknown; OC_NEWARK: unknown
footprint 1296-88
part A pins: 1 B
part B pins: 2 B
part C pins: 3 B
part D pins: 4 B
part E pins: 5 B
part F pins: 6 B
part G pins: 7 B
part H pins: 8 B
part I pins: 9 B
part J pins: 10 B
part K pins: 11 B
part L pins: 12 B
part M pins: 13 B
part N pins: 14 B
part O pins: 15 B
part P pins: 16 B
part Q pins: 17 B
part R pins: 18 B
part S pins: 19 B
part T pins: 20 B
part U pins: 21 B
part V pins: 22 B
part W pins: 23 B
part X pins: 24 B
part Y pins: 25 B
part Z pins: 26 B
part 27 pins: 27 B
part 28 pins: 28 B
part 29 pins: 29 B
part 30 pins: 30 B
part 31 pins: 31 B
part 32 pins: 32 B
part 33 pins: 33 B
part 34 pins: 34 B
part 35 pins: 35 B
part 36 pins: 36 B
part 37 pins: 37 B
part 38 pins: 38 B
part 39 pins: 39 B
part 40 pins: 40 B
part 41 pins: 41 B
part 42 pins: 42 B
part 43 pins: 43 B
part 44 pins: 44 B
part 45 pins: 45 B
part 46 pins: 46 B
part 47 pins: 47 B
part 48 pins: 48 B
part 49 pins: 49 B
part 50 pins: 50 B
part 51 pins: 51 B
part 52 pins: 52 B
part 53 pins: 53 B
part 54 pins: 54 B
part 55 pins: 55 B
part 56 pins: 56 B
part 57 pins: 57 B
part 58 pins: 58 B
part 59 pins: 59 B
part 60 pins: 60 B
part 61 pins: 61 B
part 62 pins: 62 B
part 63 pins: 63 B
part 64 pins: 64 B
part 65 pins: 65 B
part 66 pins: 66 B
part 67 pins: 67 B
part 68 pins: 68 B
part 69 pins: 69 B
part 70 pins: 70 B
part 71 pins: 71 B
part 72 pins: 72 B
part 73 pins: 73 B
part 74 pins: 74 B
part 75 pins: 75 B
part 76 pins: 76 B
part 77 pins: 77 B
part 78 pins: 78 B
part 79 pins: 79 B
part 80 pins: 80 B
part 81 pins: 81 B
part 82 pins: 82 B
part 83 pins: 83 B
part 84 pins: 84 B
part 85 pins: 85 B
part 86 pins: 86 B
part 87 pins: 87 B
part 88 pins: 88 B

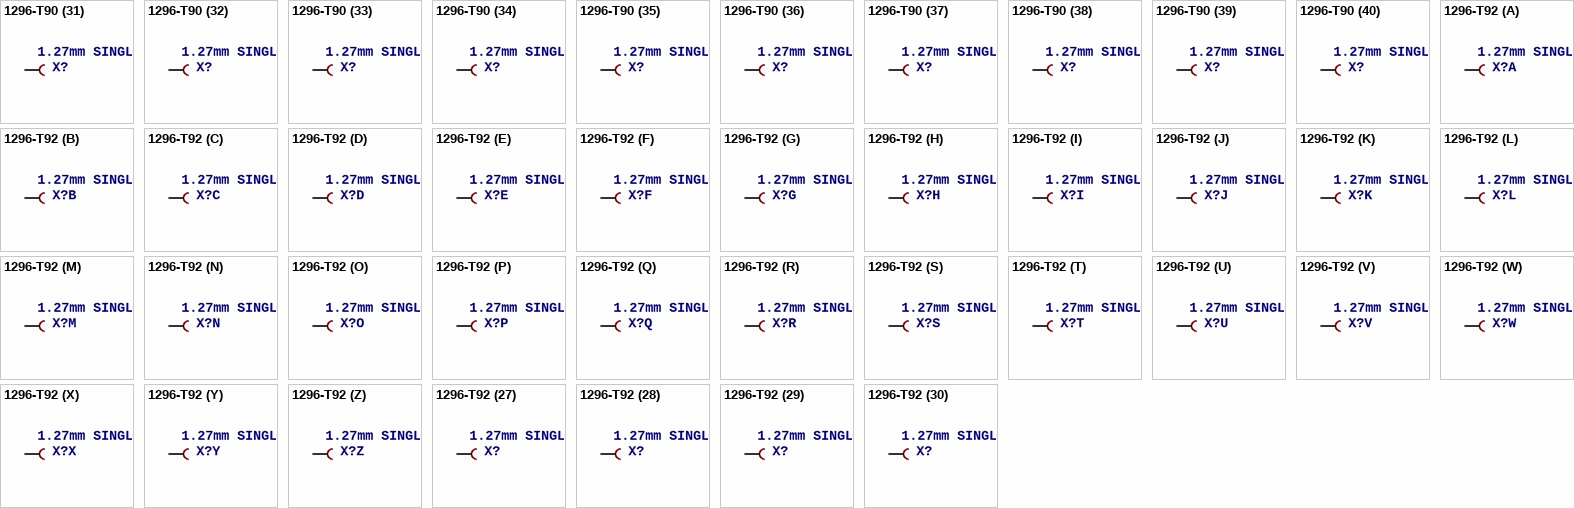
[diagram p36: symbols 1296-T90 to 1296-T92]

## 1296-T90
designator X?, comment 1.27mm SINGLE ROW FEMALE SOCKET   Source: http://www.leotronics.co.uk/Conexcon/Data%20Sheets/sec.%20A/1296ing.pdf
OC_FARNELL: unknown; OC_NEWARK: unknown
footprint 1296-90
part A pins: 1 B
part B pins: 2 B
part C pins: 3 B
part D pins: 4 B
part E pins: 5 B
part F pins: 6 B
part G pins: 7 B
part H pins: 8 B
part I pins: 9 B
part J pins: 10 B
part K pins: 11 B
part L pins: 12 B
part M pins: 13 B
part N pins: 14 B
part O pins: 15 B
part P pins: 16 B
part Q pins: 17 B
part R pins: 18 B
part S pins: 19 B
part T pins: 20 B
part U pins: 21 B
part V pins: 22 B
part W pins: 23 B
part X pins: 24 B
part Y pins: 25 B
part Z pins: 26 B
part 27 pins: 27 B
part 28 pins: 28 B
part 29 pins: 29 B
part 30 pins: 30 B
part 31 pins: 31 B
part 32 pins: 32 B
part 33 pins: 33 B
part 34 pins: 34 B
part 35 pins: 35 B
part 36 pins: 36 B
part 37 pins: 37 B
part 38 pins: 38 B
part 39 pins: 39 B
part 40 pins: 40 B
part 41 pins: 41 B
part 42 pins: 42 B
part 43 pins: 43 B
part 44 pins: 44 B
part 45 pins: 45 B
part 46 pins: 46 B
part 47 pins: 47 B
part 48 pins: 48 B
part 49 pins: 49 B
part 50 pins: 50 B
part 51 pins: 51 B
part 52 pins: 52 B
part 53 pins: 53 B
part 54 pins: 54 B
part 55 pins: 55 B
part 56 pins: 56 B
part 57 pins: 57 B
part 58 pins: 58 B
part 59 pins: 59 B
part 60 pins: 60 B
part 61 pins: 61 B
part 62 pins: 62 B
part 63 pins: 63 B
part 64 pins: 64 B
part 65 pins: 65 B
part 66 pins: 66 B
part 67 pins: 67 B
part 68 pins: 68 B
part 69 pins: 69 B
part 70 pins: 70 B
part 71 pins: 71 B
part 72 pins: 72 B
part 73 pins: 73 B
part 74 pins: 74 B
part 75 pins: 75 B
part 76 pins: 76 B
part 77 pins: 77 B
part 78 pins: 78 B
part 79 pins: 79 B
part 80 pins: 80 B
part 81 pins: 81 B
part 82 pins: 82 B
part 83 pins: 83 B
part 84 pins: 84 B
part 85 pins: 85 B
part 86 pins: 86 B
part 87 pins: 87 B
part 88 pins: 88 B
part 89 pins: 89 B
part 90 pins: 90 B

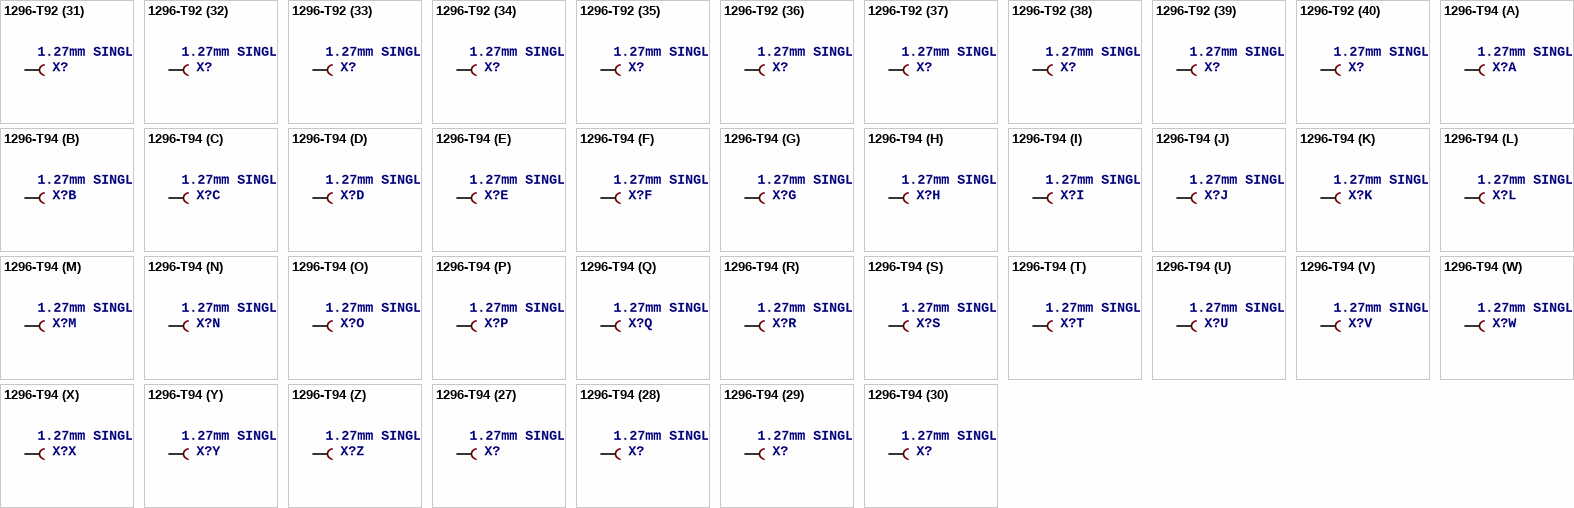
[diagram p37: symbols 1296-T92 to 1296-T94]

## 1296-T92
designator X?, comment 1.27mm SINGLE ROW FEMALE SOCKET   Source: http://www.leotronics.co.uk/Conexcon/Data%20Sheets/sec.%20A/1296ing.pdf
OC_FARNELL: unknown; OC_NEWARK: unknown
footprint 1296-92
part A pins: 1 B
part B pins: 2 B
part C pins: 3 B
part D pins: 4 B
part E pins: 5 B
part F pins: 6 B
part G pins: 7 B
part H pins: 8 B
part I pins: 9 B
part J pins: 10 B
part K pins: 11 B
part L pins: 12 B
part M pins: 13 B
part N pins: 14 B
part O pins: 15 B
part P pins: 16 B
part Q pins: 17 B
part R pins: 18 B
part S pins: 19 B
part T pins: 20 B
part U pins: 21 B
part V pins: 22 B
part W pins: 23 B
part X pins: 24 B
part Y pins: 25 B
part Z pins: 26 B
part 27 pins: 27 B
part 28 pins: 28 B
part 29 pins: 29 B
part 30 pins: 30 B
part 31 pins: 31 B
part 32 pins: 32 B
part 33 pins: 33 B
part 34 pins: 34 B
part 35 pins: 35 B
part 36 pins: 36 B
part 37 pins: 37 B
part 38 pins: 38 B
part 39 pins: 39 B
part 40 pins: 40 B
part 41 pins: 41 B
part 42 pins: 42 B
part 43 pins: 43 B
part 44 pins: 44 B
part 45 pins: 45 B
part 46 pins: 46 B
part 47 pins: 47 B
part 48 pins: 48 B
part 49 pins: 49 B
part 50 pins: 50 B
part 51 pins: 51 B
part 52 pins: 52 B
part 53 pins: 53 B
part 54 pins: 54 B
part 55 pins: 55 B
part 56 pins: 56 B
part 57 pins: 57 B
part 58 pins: 58 B
part 59 pins: 59 B
part 60 pins: 60 B
part 61 pins: 61 B
part 62 pins: 62 B
part 63 pins: 63 B
part 64 pins: 64 B
part 65 pins: 65 B
part 66 pins: 66 B
part 67 pins: 67 B
part 68 pins: 68 B
part 69 pins: 69 B
part 70 pins: 70 B
part 71 pins: 71 B
part 72 pins: 72 B
part 73 pins: 73 B
part 74 pins: 74 B
part 75 pins: 75 B
part 76 pins: 76 B
part 77 pins: 77 B
part 78 pins: 78 B
part 79 pins: 79 B
part 80 pins: 80 B
part 81 pins: 81 B
part 82 pins: 82 B
part 83 pins: 83 B
part 84 pins: 84 B
part 85 pins: 85 B
part 86 pins: 86 B
part 87 pins: 87 B
part 88 pins: 88 B
part 89 pins: 89 B
part 90 pins: 90 B
part 91 pins: 91 B
part 92 pins: 92 B

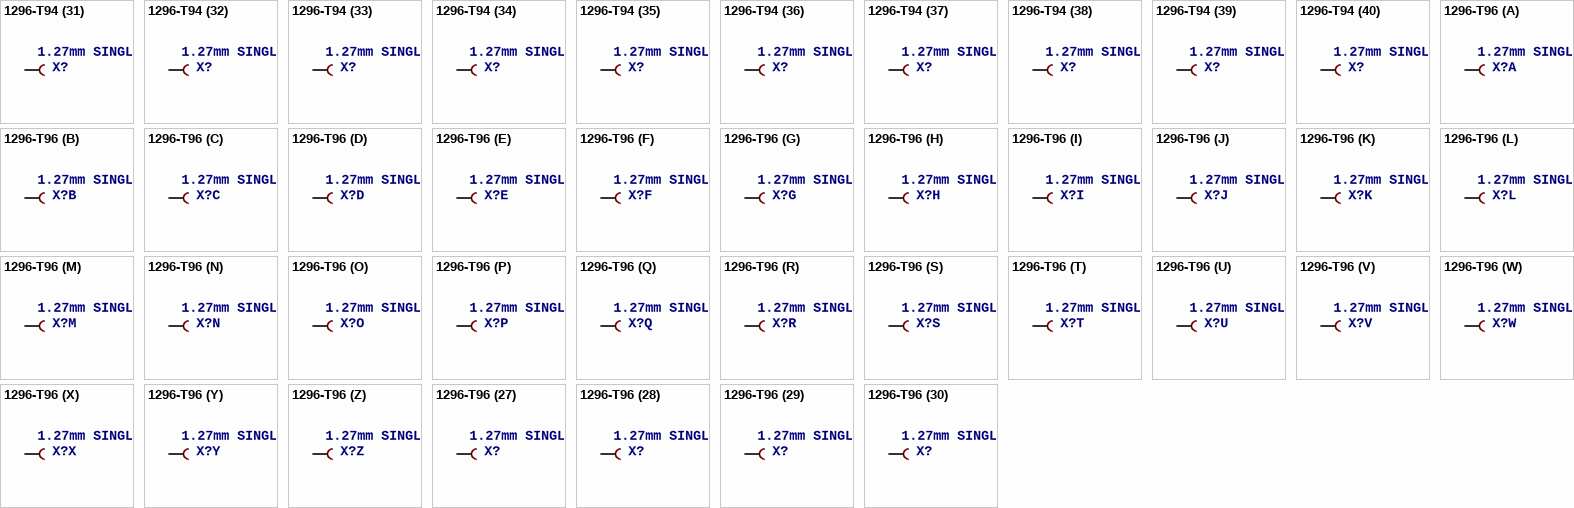
[diagram p38: symbols 1296-T94 to 1296-T96]

## 1296-T94
designator X?, comment 1.27mm SINGLE ROW FEMALE SOCKET   Source: http://www.leotronics.co.uk/Conexcon/Data%20Sheets/sec.%20A/1296ing.pdf
OC_FARNELL: unknown; OC_NEWARK: unknown
footprint 1296-94
part A pins: 1 B
part B pins: 2 B
part C pins: 3 B
part D pins: 4 B
part E pins: 5 B
part F pins: 6 B
part G pins: 7 B
part H pins: 8 B
part I pins: 9 B
part J pins: 10 B
part K pins: 11 B
part L pins: 12 B
part M pins: 13 B
part N pins: 14 B
part O pins: 15 B
part P pins: 16 B
part Q pins: 17 B
part R pins: 18 B
part S pins: 19 B
part T pins: 20 B
part U pins: 21 B
part V pins: 22 B
part W pins: 23 B
part X pins: 24 B
part Y pins: 25 B
part Z pins: 26 B
part 27 pins: 27 B
part 28 pins: 28 B
part 29 pins: 29 B
part 30 pins: 30 B
part 31 pins: 31 B
part 32 pins: 32 B
part 33 pins: 33 B
part 34 pins: 34 B
part 35 pins: 35 B
part 36 pins: 36 B
part 37 pins: 37 B
part 38 pins: 38 B
part 39 pins: 39 B
part 40 pins: 40 B
part 41 pins: 41 B
part 42 pins: 42 B
part 43 pins: 43 B
part 44 pins: 44 B
part 45 pins: 45 B
part 46 pins: 46 B
part 47 pins: 47 B
part 48 pins: 48 B
part 49 pins: 49 B
part 50 pins: 50 B
part 51 pins: 51 B
part 52 pins: 52 B
part 53 pins: 53 B
part 54 pins: 54 B
part 55 pins: 55 B
part 56 pins: 56 B
part 57 pins: 57 B
part 58 pins: 58 B
part 59 pins: 59 B
part 60 pins: 60 B
part 61 pins: 61 B
part 62 pins: 62 B
part 63 pins: 63 B
part 64 pins: 64 B
part 65 pins: 65 B
part 66 pins: 66 B
part 67 pins: 67 B
part 68 pins: 68 B
part 69 pins: 69 B
part 70 pins: 70 B
part 71 pins: 71 B
part 72 pins: 72 B
part 73 pins: 73 B
part 74 pins: 74 B
part 75 pins: 75 B
part 76 pins: 76 B
part 77 pins: 77 B
part 78 pins: 78 B
part 79 pins: 79 B
part 80 pins: 80 B
part 81 pins: 81 B
part 82 pins: 82 B
part 83 pins: 83 B
part 84 pins: 84 B
part 85 pins: 85 B
part 86 pins: 86 B
part 87 pins: 87 B
part 88 pins: 88 B
part 89 pins: 89 B
part 90 pins: 90 B
part 91 pins: 91 B
part 92 pins: 92 B
part 93 pins: 93 B
part 94 pins: 94 B

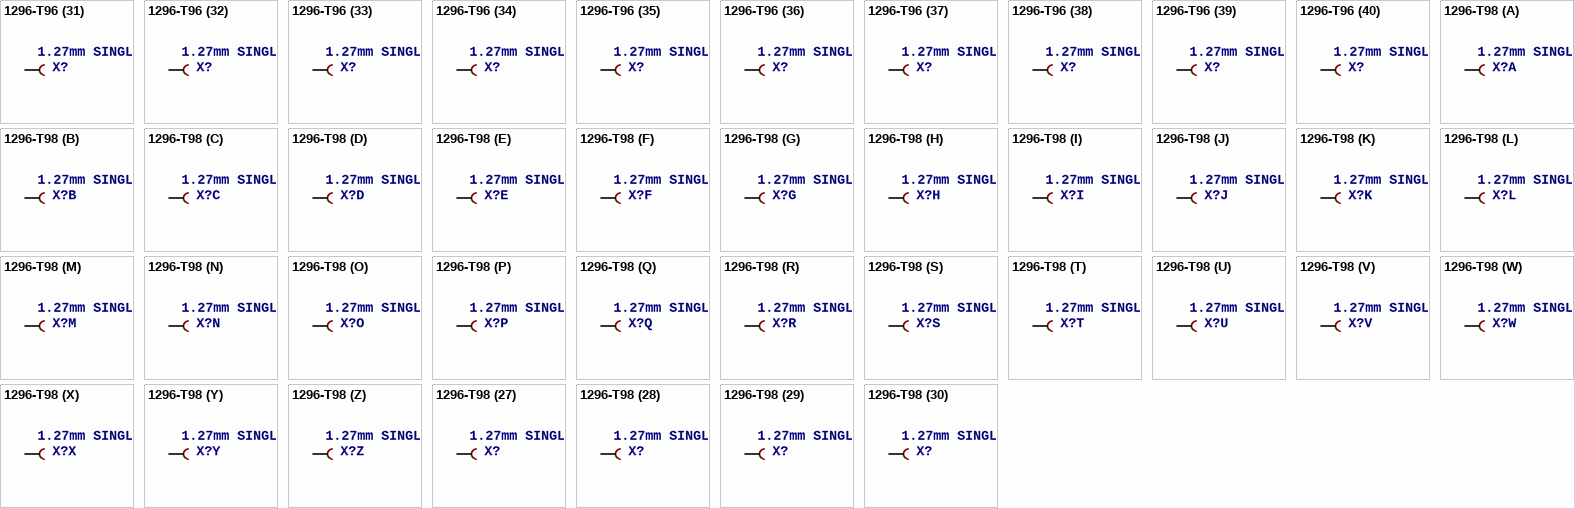
[diagram p39: symbols 1296-T96 to 1296-T98]

## 1296-T96
designator X?, comment 1.27mm SINGLE ROW FEMALE SOCKET   Source: http://www.leotronics.co.uk/Conexcon/Data%20Sheets/sec.%20A/1296ing.pdf
OC_FARNELL: unknown; OC_NEWARK: unknown
footprint 1296-96
part A pins: 1 B
part B pins: 2 B
part C pins: 3 B
part D pins: 4 B
part E pins: 5 B
part F pins: 6 B
part G pins: 7 B
part H pins: 8 B
part I pins: 9 B
part J pins: 10 B
part K pins: 11 B
part L pins: 12 B
part M pins: 13 B
part N pins: 14 B
part O pins: 15 B
part P pins: 16 B
part Q pins: 17 B
part R pins: 18 B
part S pins: 19 B
part T pins: 20 B
part U pins: 21 B
part V pins: 22 B
part W pins: 23 B
part X pins: 24 B
part Y pins: 25 B
part Z pins: 26 B
part 27 pins: 27 B
part 28 pins: 28 B
part 29 pins: 29 B
part 30 pins: 30 B
part 31 pins: 31 B
part 32 pins: 32 B
part 33 pins: 33 B
part 34 pins: 34 B
part 35 pins: 35 B
part 36 pins: 36 B
part 37 pins: 37 B
part 38 pins: 38 B
part 39 pins: 39 B
part 40 pins: 40 B
part 41 pins: 41 B
part 42 pins: 42 B
part 43 pins: 43 B
part 44 pins: 44 B
part 45 pins: 45 B
part 46 pins: 46 B
part 47 pins: 47 B
part 48 pins: 48 B
part 49 pins: 49 B
part 50 pins: 50 B
part 51 pins: 51 B
part 52 pins: 52 B
part 53 pins: 53 B
part 54 pins: 54 B
part 55 pins: 55 B
part 56 pins: 56 B
part 57 pins: 57 B
part 58 pins: 58 B
part 59 pins: 59 B
part 60 pins: 60 B
part 61 pins: 61 B
part 62 pins: 62 B
part 63 pins: 63 B
part 64 pins: 64 B
part 65 pins: 65 B
part 66 pins: 66 B
part 67 pins: 67 B
part 68 pins: 68 B
part 69 pins: 69 B
part 70 pins: 70 B
part 71 pins: 71 B
part 72 pins: 72 B
part 73 pins: 73 B
part 74 pins: 74 B
part 75 pins: 75 B
part 76 pins: 76 B
part 77 pins: 77 B
part 78 pins: 78 B
part 79 pins: 79 B
part 80 pins: 80 B
part 81 pins: 81 B
part 82 pins: 82 B
part 83 pins: 83 B
part 84 pins: 84 B
part 85 pins: 85 B
part 86 pins: 86 B
part 87 pins: 87 B
part 88 pins: 88 B
part 89 pins: 89 B
part 90 pins: 90 B
part 91 pins: 91 B
part 92 pins: 92 B
part 93 pins: 93 B
part 94 pins: 94 B
part 95 pins: 95 B
part 96 pins: 96 B

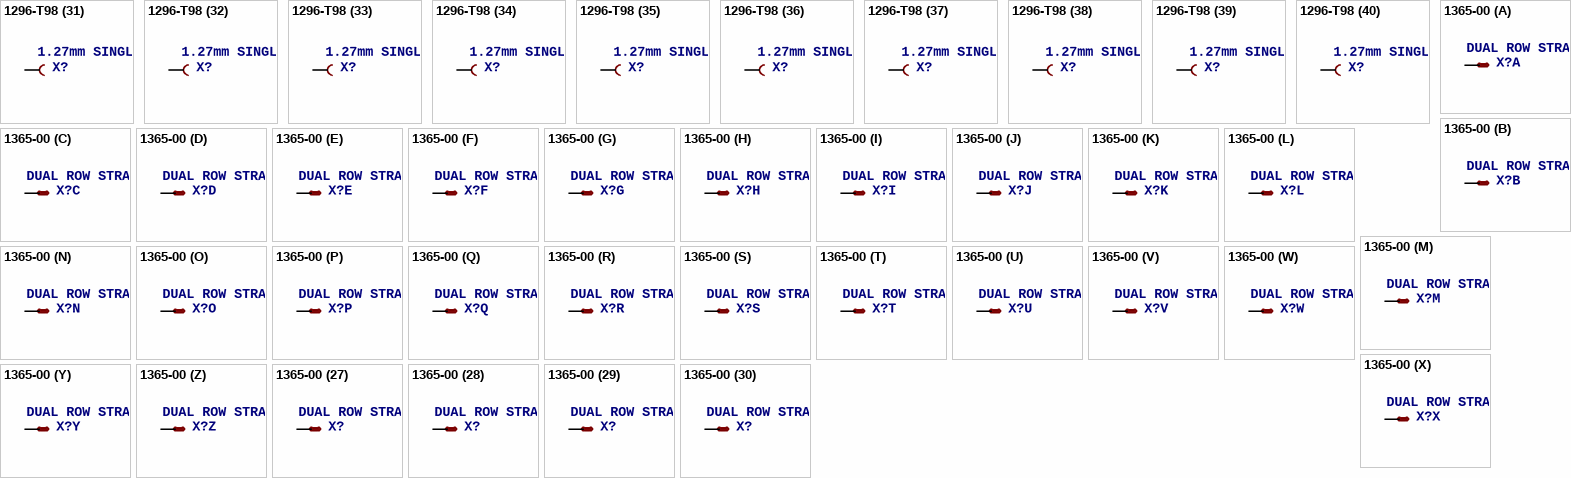
[diagram p40: symbols 1296-T98 to 1365-00]

## 1296-T98
designator X?, comment 1.27mm SINGLE ROW FEMALE SOCKET   Source: http://www.leotronics.co.uk/Conexcon/Data%20Sheets/sec.%20A/1296ing.pdf
OC_FARNELL: unknown; OC_NEWARK: unknown
footprint 1296-98
part A pins: 1 B
part B pins: 2 B
part C pins: 3 B
part D pins: 4 B
part E pins: 5 B
part F pins: 6 B
part G pins: 7 B
part H pins: 8 B
part I pins: 9 B
part J pins: 10 B
part K pins: 11 B
part L pins: 12 B
part M pins: 13 B
part N pins: 14 B
part O pins: 15 B
part P pins: 16 B
part Q pins: 17 B
part R pins: 18 B
part S pins: 19 B
part T pins: 20 B
part U pins: 21 B
part V pins: 22 B
part W pins: 23 B
part X pins: 24 B
part Y pins: 25 B
part Z pins: 26 B
part 27 pins: 27 B
part 28 pins: 28 B
part 29 pins: 29 B
part 30 pins: 30 B
part 31 pins: 31 B
part 32 pins: 32 B
part 33 pins: 33 B
part 34 pins: 34 B
part 35 pins: 35 B
part 36 pins: 36 B
part 37 pins: 37 B
part 38 pins: 38 B
part 39 pins: 39 B
part 40 pins: 40 B
part 41 pins: 41 B
part 42 pins: 42 B
part 43 pins: 43 B
part 44 pins: 44 B
part 45 pins: 45 B
part 46 pins: 46 B
part 47 pins: 47 B
part 48 pins: 48 B
part 49 pins: 49 B
part 50 pins: 50 B
part 51 pins: 51 B
part 52 pins: 52 B
part 53 pins: 53 B
part 54 pins: 54 B
part 55 pins: 55 B
part 56 pins: 56 B
part 57 pins: 57 B
part 58 pins: 58 B
part 59 pins: 59 B
part 60 pins: 60 B
part 61 pins: 61 B
part 62 pins: 62 B
part 63 pins: 63 B
part 64 pins: 64 B
part 65 pins: 65 B
part 66 pins: 66 B
part 67 pins: 67 B
part 68 pins: 68 B
part 69 pins: 69 B
part 70 pins: 70 B
part 71 pins: 71 B
part 72 pins: 72 B
part 73 pins: 73 B
part 74 pins: 74 B
part 75 pins: 75 B
part 76 pins: 76 B
part 77 pins: 77 B
part 78 pins: 78 B
part 79 pins: 79 B
part 80 pins: 80 B
part 81 pins: 81 B
part 82 pins: 82 B
part 83 pins: 83 B
part 84 pins: 84 B
part 85 pins: 85 B
part 86 pins: 86 B
part 87 pins: 87 B
part 88 pins: 88 B
part 89 pins: 89 B
part 90 pins: 90 B
part 91 pins: 91 B
part 92 pins: 92 B
part 93 pins: 93 B
part 94 pins: 94 B
part 95 pins: 95 B
part 96 pins: 96 B
part 97 pins: 97 B
part 98 pins: 98 B

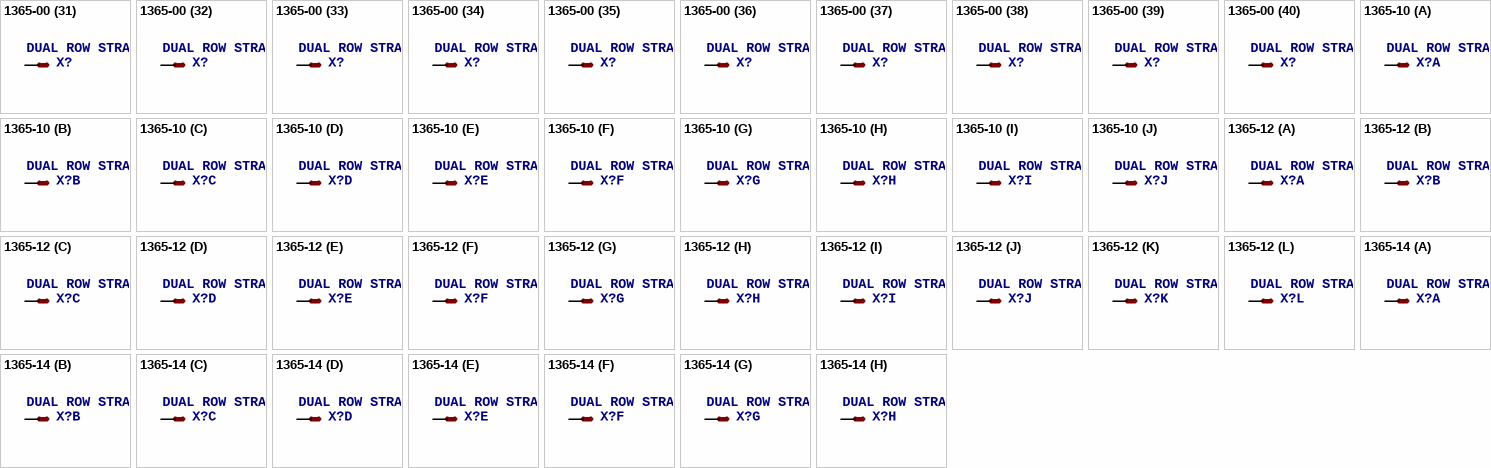
[diagram p41: symbols 1365-00 to 1365-14]

## 1365-00
designator X?, comment DUAL ROW STRAIGHT HEADER 1364 SERIES. 1.27mm x 1.27mm. Without Fixing Post. SMT   Source: http://www.leotronics.co.uk/Conexcon/Data%20Sheets/sec.%20A/1364ing.pdf
OC_FARNELL: unknown; OC_NEWARK: unknown
footprint 1365-00
part A pins: 1 S
part B pins: 2 S
part C pins: 3 S
part D pins: 4 S
part E pins: 5 S
part F pins: 6 S
part G pins: 7 S
part H pins: 8 S
part I pins: 9 S
part J pins: 10 S
part K pins: 11 S
part L pins: 12 S
part M pins: 13 S
part N pins: 14 S
part O pins: 15 S
part P pins: 16 S
part Q pins: 17 S
part R pins: 18 S
part S pins: 19 S
part T pins: 20 S
part U pins: 21 S
part V pins: 22 S
part W pins: 23 S
part X pins: 24 S
part Y pins: 25 S
part Z pins: 26 S
part 27 pins: 27 S
part 28 pins: 28 S
part 29 pins: 29 S
part 30 pins: 30 S
part 31 pins: 31 S
part 32 pins: 32 S
part 33 pins: 33 S
part 34 pins: 34 S
part 35 pins: 35 S
part 36 pins: 36 S
part 37 pins: 37 S
part 38 pins: 38 S
part 39 pins: 39 S
part 40 pins: 40 S
part 41 pins: 41 S
part 42 pins: 42 S
part 43 pins: 43 S
part 44 pins: 44 S
part 45 pins: 45 S
part 46 pins: 46 S
part 47 pins: 47 S
part 48 pins: 48 S
part 49 pins: 49 S
part 50 pins: 50 S
part 51 pins: 51 S
part 52 pins: 52 S
part 53 pins: 53 S
part 54 pins: 54 S
part 55 pins: 55 S
part 56 pins: 56 S
part 57 pins: 57 S
part 58 pins: 58 S
part 59 pins: 59 S
part 60 pins: 60 S
part 61 pins: 61 S
part 62 pins: 62 S
part 63 pins: 63 S
part 64 pins: 64 S
part 65 pins: 65 S
part 66 pins: 66 S
part 67 pins: 67 S
part 68 pins: 68 S
part 69 pins: 69 S
part 70 pins: 70 S
part 71 pins: 71 S
part 72 pins: 72 S
part 73 pins: 73 S
part 74 pins: 74 S
part 75 pins: 75 S
part 76 pins: 76 S
part 77 pins: 77 S
part 78 pins: 78 S
part 79 pins: 79 S
part 80 pins: 80 S
part 81 pins: 81 S
part 82 pins: 82 S
part 83 pins: 83 S
part 84 pins: 84 S
part 85 pins: 85 S
part 86 pins: 86 S
part 87 pins: 87 S
part 88 pins: 88 S
part 89 pins: 89 S
part 90 pins: 90 S
part 91 pins: 91 S
part 92 pins: 92 S
part 93 pins: 93 S
part 94 pins: 94 S
part 95 pins: 95 S
part 96 pins: 96 S
part 97 pins: 97 S
part 98 pins: 98 S
part 99 pins: 99 S
part 100 pins: 100 S

## 1365-10
designator X?, comment DUAL ROW STRAIGHT HEADER 1364 SERIES. 1.27mm x 1.27mm. Without Fixing Post. SMT   Source: http://www.leotronics.co.uk/Conexcon/Data%20Sheets/sec.%20A/1364ing.pdf
OC_FARNELL: unknown; OC_NEWARK: unknown
footprint 1365-10
part A pins: 1 S
part B pins: 2 S
part C pins: 3 S
part D pins: 4 S
part E pins: 5 S
part F pins: 6 S
part G pins: 7 S
part H pins: 8 S
part I pins: 9 S
part J pins: 10 S

## 1365-12
designator X?, comment DUAL ROW STRAIGHT HEADER 1364 SERIES. 1.27mm x 1.27mm. Without Fixing Post. SMT   Source: http://www.leotronics.co.uk/Conexcon/Data%20Sheets/sec.%20A/1364ing.pdf
OC_FARNELL: unknown; OC_NEWARK: unknown
footprint 1365-12
part A pins: 1 S
part B pins: 2 S
part C pins: 3 S
part D pins: 4 S
part E pins: 5 S
part F pins: 6 S
part G pins: 7 S
part H pins: 8 S
part I pins: 9 S
part J pins: 10 S
part K pins: 11 S
part L pins: 12 S

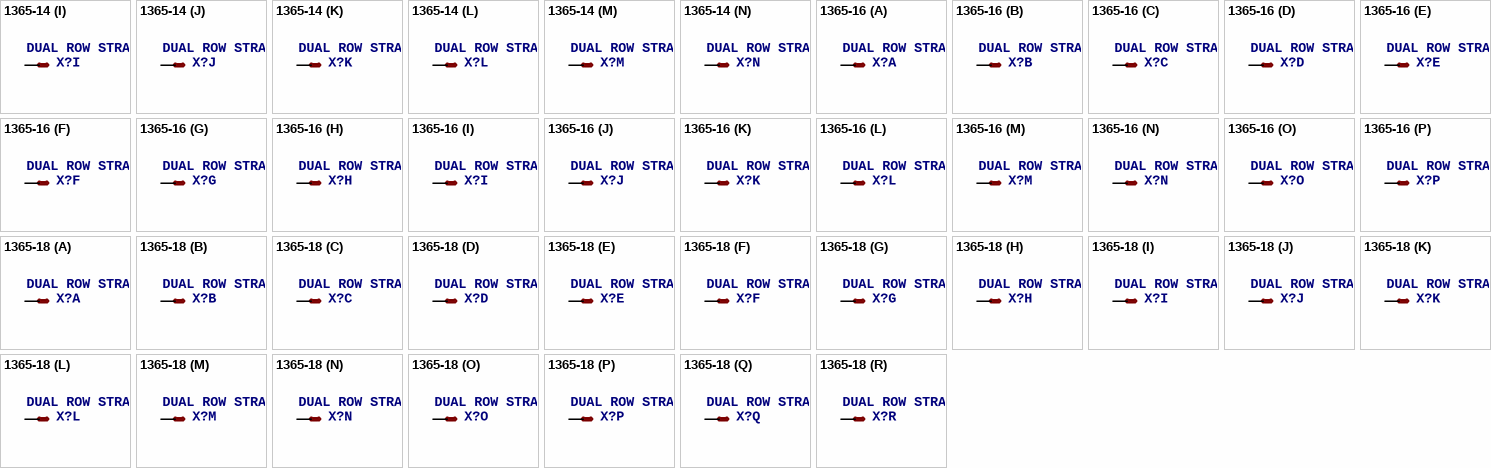
[diagram p42: symbols 1365-14 to 1365-18]

## 1365-14
designator X?, comment DUAL ROW STRAIGHT HEADER 1364 SERIES. 1.27mm x 1.27mm. Without Fixing Post. SMT   Source: http://www.leotronics.co.uk/Conexcon/Data%20Sheets/sec.%20A/1364ing.pdf
OC_FARNELL: unknown; OC_NEWARK: unknown
footprint 1365-14
part A pins: 1 S
part B pins: 2 S
part C pins: 3 S
part D pins: 4 S
part E pins: 5 S
part F pins: 6 S
part G pins: 7 S
part H pins: 8 S
part I pins: 9 S
part J pins: 10 S
part K pins: 11 S
part L pins: 12 S
part M pins: 13 S
part N pins: 14 S

## 1365-16
designator X?, comment DUAL ROW STRAIGHT HEADER 1364 SERIES. 1.27mm x 1.27mm. Without Fixing Post. SMT   Source: http://www.leotronics.co.uk/Conexcon/Data%20Sheets/sec.%20A/1364ing.pdf
OC_FARNELL: unknown; OC_NEWARK: unknown
footprint 1365-16
part A pins: 1 S
part B pins: 2 S
part C pins: 3 S
part D pins: 4 S
part E pins: 5 S
part F pins: 6 S
part G pins: 7 S
part H pins: 8 S
part I pins: 9 S
part J pins: 10 S
part K pins: 11 S
part L pins: 12 S
part M pins: 13 S
part N pins: 14 S
part O pins: 15 S
part P pins: 16 S

## 1365-18
designator X?, comment DUAL ROW STRAIGHT HEADER 1364 SERIES. 1.27mm x 1.27mm. Without Fixing Post. SMT   Source: http://www.leotronics.co.uk/Conexcon/Data%20Sheets/sec.%20A/1364ing.pdf
OC_FARNELL: unknown; OC_NEWARK: unknown
footprint 1365-18
part A pins: 1 S
part B pins: 2 S
part C pins: 3 S
part D pins: 4 S
part E pins: 5 S
part F pins: 6 S
part G pins: 7 S
part H pins: 8 S
part I pins: 9 S
part J pins: 10 S
part K pins: 11 S
part L pins: 12 S
part M pins: 13 S
part N pins: 14 S
part O pins: 15 S
part P pins: 16 S
part Q pins: 17 S
part R pins: 18 S

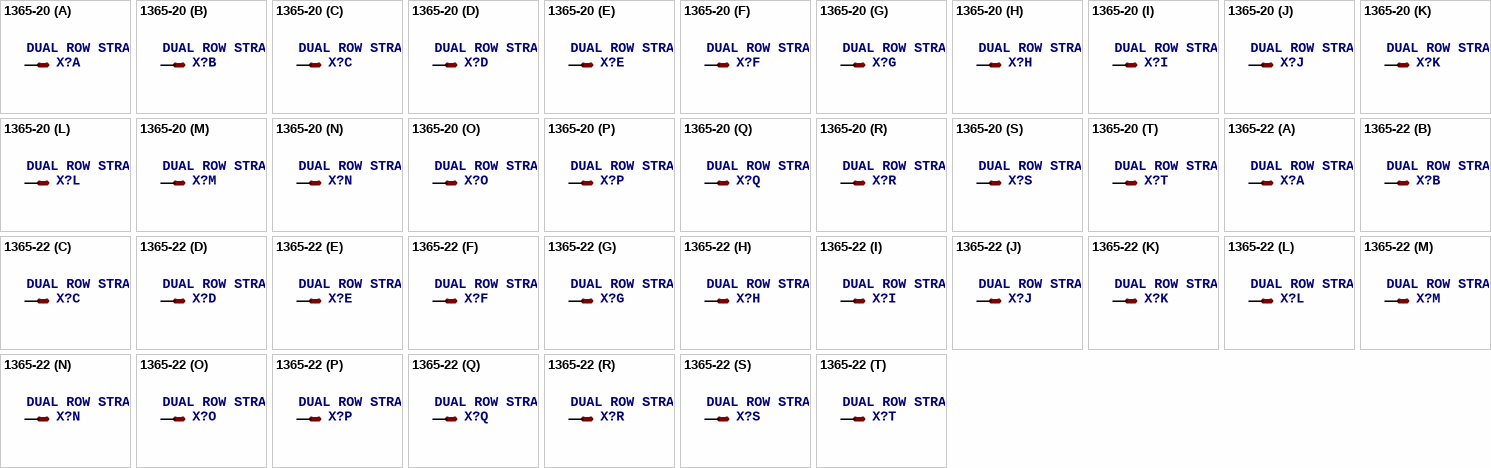
[diagram p43: symbols 1365-20 to 1365-22]

## 1365-20
designator X?, comment DUAL ROW STRAIGHT HEADER 1364 SERIES. 1.27mm x 1.27mm. Without Fixing Post. SMT   Source: http://www.leotronics.co.uk/Conexcon/Data%20Sheets/sec.%20A/1364ing.pdf
OC_FARNELL: unknown; OC_NEWARK: unknown
footprint 1365-20
part A pins: 1 S
part B pins: 2 S
part C pins: 3 S
part D pins: 4 S
part E pins: 5 S
part F pins: 6 S
part G pins: 7 S
part H pins: 8 S
part I pins: 9 S
part J pins: 10 S
part K pins: 11 S
part L pins: 12 S
part M pins: 13 S
part N pins: 14 S
part O pins: 15 S
part P pins: 16 S
part Q pins: 17 S
part R pins: 18 S
part S pins: 19 S
part T pins: 20 S

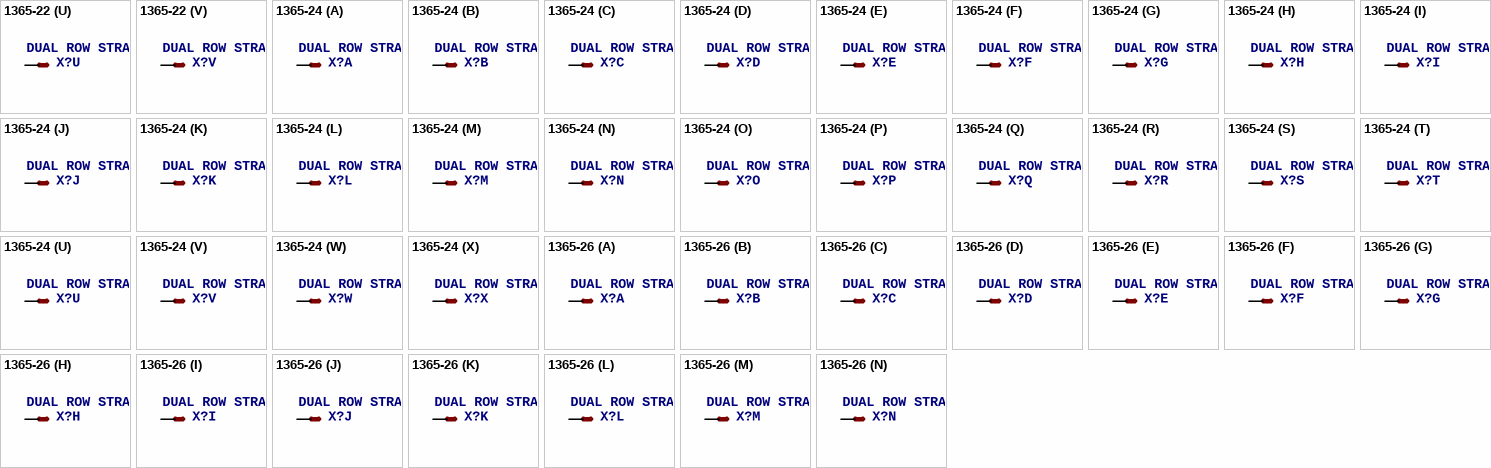
[diagram p44: symbols 1365-22 to 1365-26]

## 1365-22
designator X?, comment DUAL ROW STRAIGHT HEADER 1364 SERIES. 1.27mm x 1.27mm. Without Fixing Post. SMT   Source: http://www.leotronics.co.uk/Conexcon/Data%20Sheets/sec.%20A/1364ing.pdf
OC_FARNELL: unknown; OC_NEWARK: unknown
footprint 1365-22
part A pins: 1 S
part B pins: 2 S
part C pins: 3 S
part D pins: 4 S
part E pins: 5 S
part F pins: 6 S
part G pins: 7 S
part H pins: 8 S
part I pins: 9 S
part J pins: 10 S
part K pins: 11 S
part L pins: 12 S
part M pins: 13 S
part N pins: 14 S
part O pins: 15 S
part P pins: 16 S
part Q pins: 17 S
part R pins: 18 S
part S pins: 19 S
part T pins: 20 S
part U pins: 21 S
part V pins: 22 S

## 1365-24
designator X?, comment DUAL ROW STRAIGHT HEADER 1364 SERIES. 1.27mm x 1.27mm. Without Fixing Post. SMT   Source: http://www.leotronics.co.uk/Conexcon/Data%20Sheets/sec.%20A/1364ing.pdf
OC_FARNELL: unknown; OC_NEWARK: unknown
footprint 1365-24
part A pins: 1 S
part B pins: 2 S
part C pins: 3 S
part D pins: 4 S
part E pins: 5 S
part F pins: 6 S
part G pins: 7 S
part H pins: 8 S
part I pins: 9 S
part J pins: 10 S
part K pins: 11 S
part L pins: 12 S
part M pins: 13 S
part N pins: 14 S
part O pins: 15 S
part P pins: 16 S
part Q pins: 17 S
part R pins: 18 S
part S pins: 19 S
part T pins: 20 S
part U pins: 21 S
part V pins: 22 S
part W pins: 23 S
part X pins: 24 S

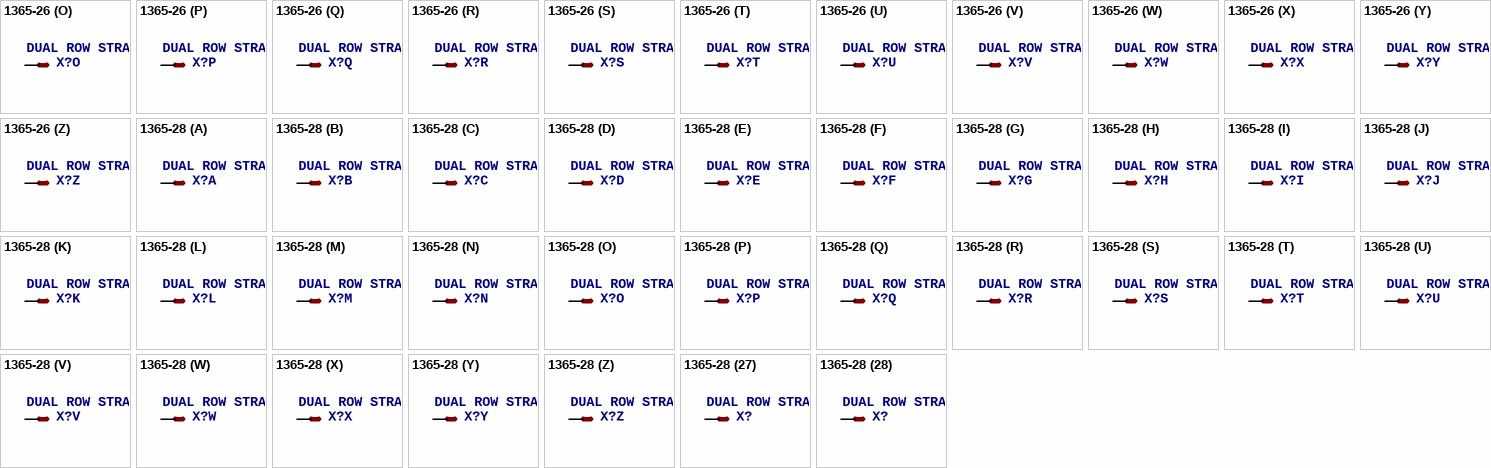
[diagram p45: symbols 1365-26 to 1365-28]

## 1365-26
designator X?, comment DUAL ROW STRAIGHT HEADER 1364 SERIES. 1.27mm x 1.27mm. Without Fixing Post. SMT   Source: http://www.leotronics.co.uk/Conexcon/Data%20Sheets/sec.%20A/1364ing.pdf
OC_FARNELL: unknown; OC_NEWARK: unknown
footprint 1365-26
part A pins: 1 S
part B pins: 2 S
part C pins: 3 S
part D pins: 4 S
part E pins: 5 S
part F pins: 6 S
part G pins: 7 S
part H pins: 8 S
part I pins: 9 S
part J pins: 10 S
part K pins: 11 S
part L pins: 12 S
part M pins: 13 S
part N pins: 14 S
part O pins: 15 S
part P pins: 16 S
part Q pins: 17 S
part R pins: 18 S
part S pins: 19 S
part T pins: 20 S
part U pins: 21 S
part V pins: 22 S
part W pins: 23 S
part X pins: 24 S
part Y pins: 25 S
part Z pins: 26 S

## 1365-28
designator X?, comment DUAL ROW STRAIGHT HEADER 1364 SERIES. 1.27mm x 1.27mm. Without Fixing Post. SMT   Source: http://www.leotronics.co.uk/Conexcon/Data%20Sheets/sec.%20A/1364ing.pdf
OC_FARNELL: unknown; OC_NEWARK: unknown
footprint 1365-28
part A pins: 1 S
part B pins: 2 S
part C pins: 3 S
part D pins: 4 S
part E pins: 5 S
part F pins: 6 S
part G pins: 7 S
part H pins: 8 S
part I pins: 9 S
part J pins: 10 S
part K pins: 11 S
part L pins: 12 S
part M pins: 13 S
part N pins: 14 S
part O pins: 15 S
part P pins: 16 S
part Q pins: 17 S
part R pins: 18 S
part S pins: 19 S
part T pins: 20 S
part U pins: 21 S
part V pins: 22 S
part W pins: 23 S
part X pins: 24 S
part Y pins: 25 S
part Z pins: 26 S
part 27 pins: 27 S
part 28 pins: 28 S